# Altium integrated library Microchip PIC24F.IntLib: 529 symbols (part 14 of 32)
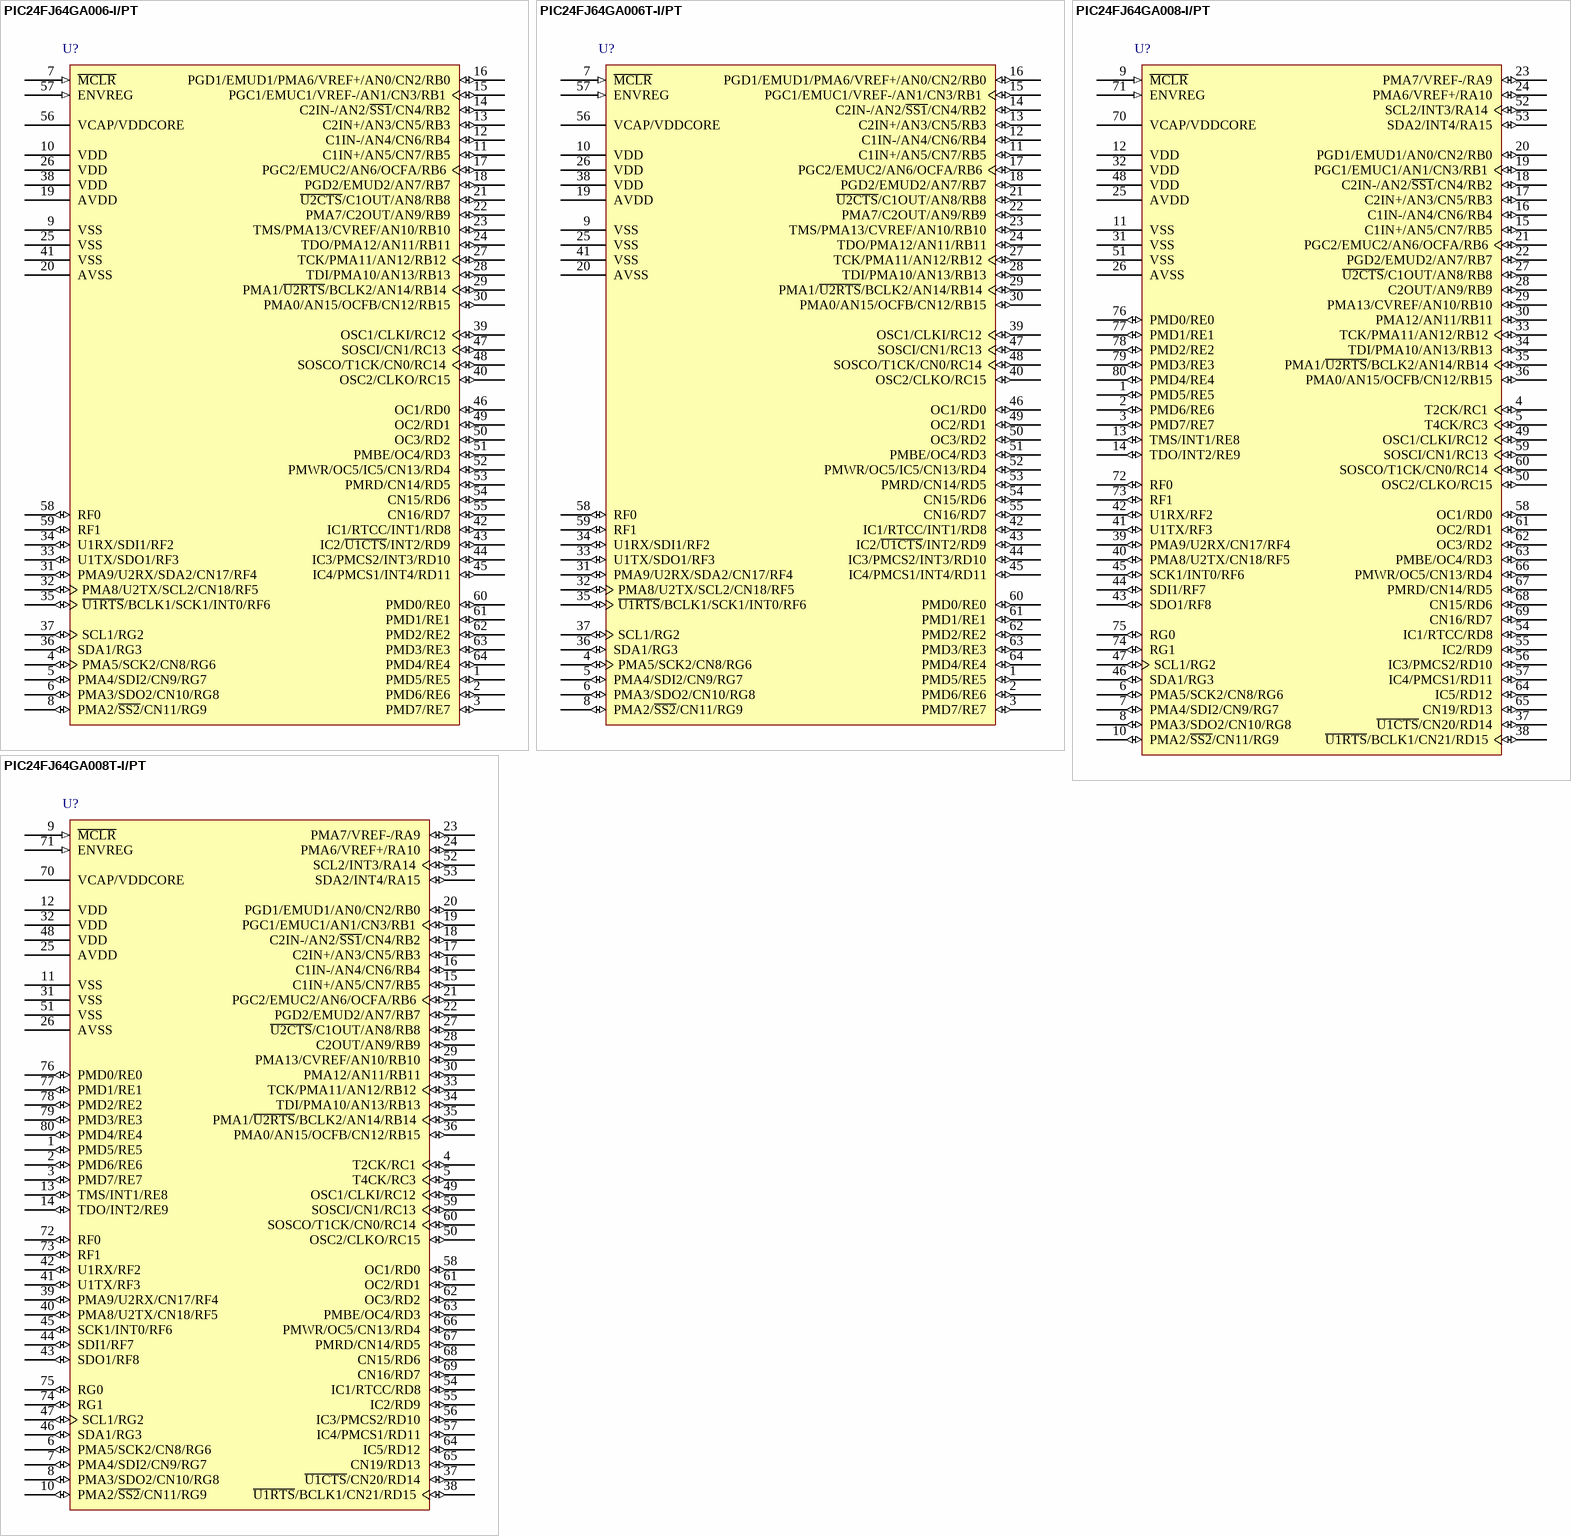
[diagram p135: symbols PIC24FJ64GA006-I/PT to PIC24FJ64GA008T-I/PT]

## PIC24FJ64GA006T-I/PT
designator U?
General Purpose 16-Bit Flash Microcontroller, 64KB Flash, 8KB SRAM, 64-Pin TQFP, Industrial Temperature, Tape and Reel; Manufacturer: Microchip; PartNumber: PIC24FJ64GA006T-I/PT; DatasheetVersion: revE, Oct-2009; PackageVersion: revBB, Aug-2009; PackageReference: TQFP-PT64; PackageDescription: 64-Lead Thin Plastic Quad Flat Pack (PT) - 10x10x1mm Body, 2.00mm [TQFP]; Supplier 1: Digi-Key; Supplier Part Number 1: PIC24FJ64GA006T-I/PT-ND; Supplier 2: Newark; Supplier Part Number 2: 56K7344; Supplier 3: Mouser; Supplier Part Number 3: 579-24FJ64GA006TIPT; Mounting Technology: Surface Mount; Code_JEDEC: MS-026; ComponentLink1Description: Manufacturer URL; ComponentLink1URL: http://www.microchip.com/; ComponentLink2Description: Datasheet; ComponentLink2URL: http://ww1.microchip.com/downloads/en/DeviceDoc/39747e.pdf; ComponentLink3Description: Package Specification; ComponentLink3URL: http://www.microchip.com/stellent/groups/techpub_sg/documents/packagingspec/en012702.pdf
footprint TQFP-PT64_N (Thin QFP, 64-Leads, Body 10x10mm, Pitch 0.5mm, IPC Medium Density)
footprint TQFP-PT64_L (Thin QFP, 64-Leads, Body 10x10mm, Pitch 0.5mm, IPC High Density)
footprint TQFP-PT64_M (Thin QFP, 64-Leads, Body 10x10mm, Pitch 0.5mm, IPC Low Density)
pins: 1 PMD5/RE5 (io), 2 PMD6/RE6 (io), 3 PMD7/RE7 (io), 4 PMA5/SCK2/CN8/RG6 (io), 5 PMA4/SDI2/CN9/RG7 (io), 6 PMA3/SDO2/CN10/RG8 (io), 7 ~{MCLR} (in), 8 PMA2/~{SS2}/CN11/RG9 (io), 9 VSS (power), 10 VDD (power), 11 C1IN+/AN5/CN7/RB5 (io), 12 C1IN-/AN4/CN6/RB4 (io), 13 C2IN+/AN3/CN5/RB3 (io), 14 C2IN-/AN2/~{SS1}/CN4/RB2 (io), 15 PGC1/EMUC1/VREF-/AN1/CN3/RB1 (io), 16 PGD1/EMUD1/PMA6/VREF+/AN0/CN2/RB0 (io), 17 PGC2/EMUC2/AN6/OCFA/RB6 (io), 18 PGD2/EMUD2/AN7/RB7 (io), 19 AVDD (power), 20 AVSS (power), 21 ~{U2CTS}/C1OUT/AN8/RB8 (io), 22 PMA7/C2OUT/AN9/RB9 (io), 23 TMS/PMA13/CVREF/AN10/RB10 (io), 24 TDO/PMA12/AN11/RB11 (io), 25 VSS (power), 26 VDD (power), 27 TCK/PMA11/AN12/RB12 (io), 28 TDI/PMA10/AN13/RB13 (io), 29 PMA1/~{U2RTS}/BCLK2/AN14/RB14 (io), 30 PMA0/AN15/OCFB/CN12/RB15 (io), 31 PMA9/U2RX/SDA2/CN17/RF4 (io), 32 PMA8/U2TX/SCL2/CN18/RF5 (io), 33 U1TX/SDO1/RF3 (io), 34 U1RX/SDI1/RF2 (io), 35 ~{U1RTS}/BCLK1/SCK1/INT0/RF6 (io), 36 SDA1/RG3 (io), 37 SCL1/RG2 (io), 38 VDD (power), 39 OSC1/CLKI/RC12 (io), 40 OSC2/CLKO/RC15 (io), 41 VSS (power), 42 IC1/RTCC/INT1/RD8 (io), 43 IC2/~{U1CTS}/INT2/RD9 (io), 44 IC3/PMCS2/INT3/RD10 (io), 45 IC4/PMCS1/INT4/RD11 (io), 46 OC1/RD0 (io), 47 SOSCI/CN1/RC13 (io), 48 SOSCO/T1CK/CN0/RC14 (io), 49 OC2/RD1 (io), 50 OC3/RD2 (io), 51 PMBE/OC4/RD3 (io), 52 PMWR/OC5/IC5/CN13/RD4 (io), 53 PMRD/CN14/RD5 (io), 54 CN15/RD6 (io), 55 CN16/RD7 (io), 56 VCAP/VDDCORE (power), 57 ENVREG (in), 58 RF0 (io), 59 RF1 (io), 60 PMD0/RE0 (io), 61 PMD1/RE1 (io), 62 PMD2/RE2 (io), 63 PMD3/RE3 (io), 64 PMD4/RE4 (io)

## PIC24FJ64GA008-I/PT
designator U?
General Purpose 16-Bit Flash Microcontroller, 64KB Flash, 8KB SRAM, 80-Pin TQFP, Industrial Temperature; Manufacturer: Microchip; PartNumber: PIC24FJ64GA008-I/PT; DatasheetVersion: revE, Oct-2009; PackageVersion: revBB, Aug-2009; PackageReference: TQFP-PT80; PackageDescription: 80-Lead Thin Plastic Quad Flat Pack (PT) - 12x12x1mm Body, 2.00mm [TQFP]; Supplier 1: Digi-Key; Supplier Part Number 1: PIC24FJ64GA008-I/PT-ND; Supplier 2: Farnell; Supplier Part Number 2: 1146525; Supplier 3: Farnell; Supplier Part Number 3: 1146525MPKG; Supplier 4: Newark; Supplier Part Number 4: 56K7345; Supplier 5: Mouser; Supplier Part Number 5: 579-24FJ64GA008IPT; Mounting Technology: Surface Mount; Code_JEDEC: MS-026; ComponentLink1Description: Manufacturer URL; ComponentLink1URL: http://www.microchip.com/; ComponentLink2Description: Datasheet; ComponentLink2URL: http://ww1.microchip.com/downloads/en/DeviceDoc/39747e.pdf; ComponentLink3Description: Package Specification; ComponentLink3URL: http://www.microchip.com/stellent/groups/techpub_sg/documents/packagingspec/en012702.pdf
footprint TQFP-PT80_N (Thin QFP, 80-Leads, Body 12x12mm, Pitch 0.5mm, IPC Medium Density)
footprint TQFP-PT80_L (Thin QFP, 80-Leads, Body 12x12mm, Pitch 0.5mm, IPC High Density)
footprint TQFP-PT80_M (Thin QFP, 80-Leads, Body 12x12mm, Pitch 0.5mm, IPC Low Density)
pins: 1 PMD5/RE5 (io), 2 PMD6/RE6 (io), 3 PMD7/RE7 (io), 4 T2CK/RC1 (io), 5 T4CK/RC3 (io), 6 PMA5/SCK2/CN8/RG6 (io), 7 PMA4/SDI2/CN9/RG7 (io), 8 PMA3/SDO2/CN10/RG8 (io), 9 ~{MCLR} (in), 10 PMA2/~{SS2}/CN11/RG9 (io), 11 VSS (power), 12 VDD (power), 13 TMS/INT1/RE8 (io), 14 TDO/INT2/RE9 (io), 15 C1IN+/AN5/CN7/RB5 (io), 16 C1IN-/AN4/CN6/RB4 (io), 17 C2IN+/AN3/CN5/RB3 (io), 18 C2IN-/AN2/~{SS1}/CN4/RB2 (io), 19 PGC1/EMUC1/AN1/CN3/RB1 (io), 20 PGD1/EMUD1/AN0/CN2/RB0 (io), 21 PGC2/EMUC2/AN6/OCFA/RB6 (io), 22 PGD2/EMUD2/AN7/RB7 (io), 23 PMA7/VREF-/RA9 (io), 24 PMA6/VREF+/RA10 (io), 25 AVDD (power), 26 AVSS (power), 27 ~{U2CTS}/C1OUT/AN8/RB8 (io), 28 C2OUT/AN9/RB9 (io), 29 PMA13/CVREF/AN10/RB10 (io), 30 PMA12/AN11/RB11 (io), 31 VSS (power), 32 VDD (power), 33 TCK/PMA11/AN12/RB12 (io), 34 TDI/PMA10/AN13/RB13 (io), 35 PMA1/~{U2RTS}/BCLK2/AN14/RB14 (io), 36 PMA0/AN15/OCFB/CN12/RB15 (io), 37 ~{U1CTS}/CN20/RD14 (io), 38 ~{U1RTS}/BCLK1/CN21/RD15 (io), 39 PMA9/U2RX/CN17/RF4 (io), 40 PMA8/U2TX/CN18/RF5 (io), 41 U1TX/RF3 (io), 42 U1RX/RF2 (io), 43 SDO1/RF8 (io), 44 SDI1/RF7 (io), 45 SCK1/INT0/RF6 (io), 46 SDA1/RG3 (io), 47 SCL1/RG2 (io), 48 VDD (power), 49 OSC1/CLKI/RC12 (io), 50 OSC2/CLKO/RC15 (io), 51 VSS (power), 52 SCL2/INT3/RA14 (io), 53 SDA2/INT4/RA15 (io), 54 IC1/RTCC/RD8 (io), 55 IC2/RD9 (io), 56 IC3/PMCS2/RD10 (io), 57 IC4/PMCS1/RD11 (io), 58 OC1/RD0 (io), 59 SOSCI/CN1/RC13 (io), 60 SOSCO/T1CK/CN0/RC14 (io), 61 OC2/RD1 (io), 62 OC3/RD2 (io), 63 PMBE/OC4/RD3 (io), 64 IC5/RD12 (io), 65 CN19/RD13 (io), 66 PMWR/OC5/CN13/RD4 (io), 67 PMRD/CN14/RD5 (io), 68 CN15/RD6 (io), 69 CN16/RD7 (io), 70 VCAP/VDDCORE (power), 71 ENVREG (in), 72 RF0 (io), 73 RF1 (io), 74 RG1 (io), 75 RG0 (io), 76 PMD0/RE0 (io), 77 PMD1/RE1 (io), 78 PMD2/RE2 (io), 79 PMD3/RE3 (io), 80 PMD4/RE4 (io)

## PIC24FJ64GA008T-I/PT
designator U?
General Purpose 16-Bit Flash Microcontroller, 64KB Flash, 8KB SRAM, 80-Pin TQFP, Industrial Temperature, Tape and Reel; Manufacturer: Microchip; PartNumber: PIC24FJ64GA008T-I/PT; DatasheetVersion: revE, Oct-2009; PackageVersion: revBB, Aug-2009; PackageReference: TQFP-PT80; PackageDescription: 80-Lead Thin Plastic Quad Flat Pack (PT) - 12x12x1mm Body, 2.00mm [TQFP]; Supplier 1: Digi-Key; Supplier Part Number 1: PIC24FJ64GA008T-I/PT-ND; Supplier 2: Mouser; Supplier Part Number 2: 579-24FJ64GA008TIPT; Mounting Technology: Surface Mount; Code_JEDEC: MS-026; ComponentLink1Description: Manufacturer URL; ComponentLink1URL: http://www.microchip.com/; ComponentLink2Description: Datasheet; ComponentLink2URL: http://ww1.microchip.com/downloads/en/DeviceDoc/39747e.pdf; ComponentLink3Description: Package Specification; ComponentLink3URL: http://www.microchip.com/stellent/groups/techpub_sg/documents/packagingspec/en012702.pdf
footprint TQFP-PT80_N (Thin QFP, 80-Leads, Body 12x12mm, Pitch 0.5mm, IPC Medium Density)
footprint TQFP-PT80_L (Thin QFP, 80-Leads, Body 12x12mm, Pitch 0.5mm, IPC High Density)
footprint TQFP-PT80_M (Thin QFP, 80-Leads, Body 12x12mm, Pitch 0.5mm, IPC Low Density)
pins: 1 PMD5/RE5 (io), 2 PMD6/RE6 (io), 3 PMD7/RE7 (io), 4 T2CK/RC1 (io), 5 T4CK/RC3 (io), 6 PMA5/SCK2/CN8/RG6 (io), 7 PMA4/SDI2/CN9/RG7 (io), 8 PMA3/SDO2/CN10/RG8 (io), 9 ~{MCLR} (in), 10 PMA2/~{SS2}/CN11/RG9 (io), 11 VSS (power), 12 VDD (power), 13 TMS/INT1/RE8 (io), 14 TDO/INT2/RE9 (io), 15 C1IN+/AN5/CN7/RB5 (io), 16 C1IN-/AN4/CN6/RB4 (io), 17 C2IN+/AN3/CN5/RB3 (io), 18 C2IN-/AN2/~{SS1}/CN4/RB2 (io), 19 PGC1/EMUC1/AN1/CN3/RB1 (io), 20 PGD1/EMUD1/AN0/CN2/RB0 (io), 21 PGC2/EMUC2/AN6/OCFA/RB6 (io), 22 PGD2/EMUD2/AN7/RB7 (io), 23 PMA7/VREF-/RA9 (io), 24 PMA6/VREF+/RA10 (io), 25 AVDD (power), 26 AVSS (power), 27 ~{U2CTS}/C1OUT/AN8/RB8 (io), 28 C2OUT/AN9/RB9 (io), 29 PMA13/CVREF/AN10/RB10 (io), 30 PMA12/AN11/RB11 (io), 31 VSS (power), 32 VDD (power), 33 TCK/PMA11/AN12/RB12 (io), 34 TDI/PMA10/AN13/RB13 (io), 35 PMA1/~{U2RTS}/BCLK2/AN14/RB14 (io), 36 PMA0/AN15/OCFB/CN12/RB15 (io), 37 ~{U1CTS}/CN20/RD14 (io), 38 ~{U1RTS}/BCLK1/CN21/RD15 (io), 39 PMA9/U2RX/CN17/RF4 (io), 40 PMA8/U2TX/CN18/RF5 (io), 41 U1TX/RF3 (io), 42 U1RX/RF2 (io), 43 SDO1/RF8 (io), 44 SDI1/RF7 (io), 45 SCK1/INT0/RF6 (io), 46 SDA1/RG3 (io), 47 SCL1/RG2 (io), 48 VDD (power), 49 OSC1/CLKI/RC12 (io), 50 OSC2/CLKO/RC15 (io), 51 VSS (power), 52 SCL2/INT3/RA14 (io), 53 SDA2/INT4/RA15 (io), 54 IC1/RTCC/RD8 (io), 55 IC2/RD9 (io), 56 IC3/PMCS2/RD10 (io), 57 IC4/PMCS1/RD11 (io), 58 OC1/RD0 (io), 59 SOSCI/CN1/RC13 (io), 60 SOSCO/T1CK/CN0/RC14 (io), 61 OC2/RD1 (io), 62 OC3/RD2 (io), 63 PMBE/OC4/RD3 (io), 64 IC5/RD12 (io), 65 CN19/RD13 (io), 66 PMWR/OC5/CN13/RD4 (io), 67 PMRD/CN14/RD5 (io), 68 CN15/RD6 (io), 69 CN16/RD7 (io), 70 VCAP/VDDCORE (power), 71 ENVREG (in), 72 RF0 (io), 73 RF1 (io), 74 RG1 (io), 75 RG0 (io), 76 PMD0/RE0 (io), 77 PMD1/RE1 (io), 78 PMD2/RE2 (io), 79 PMD3/RE3 (io), 80 PMD4/RE4 (io)

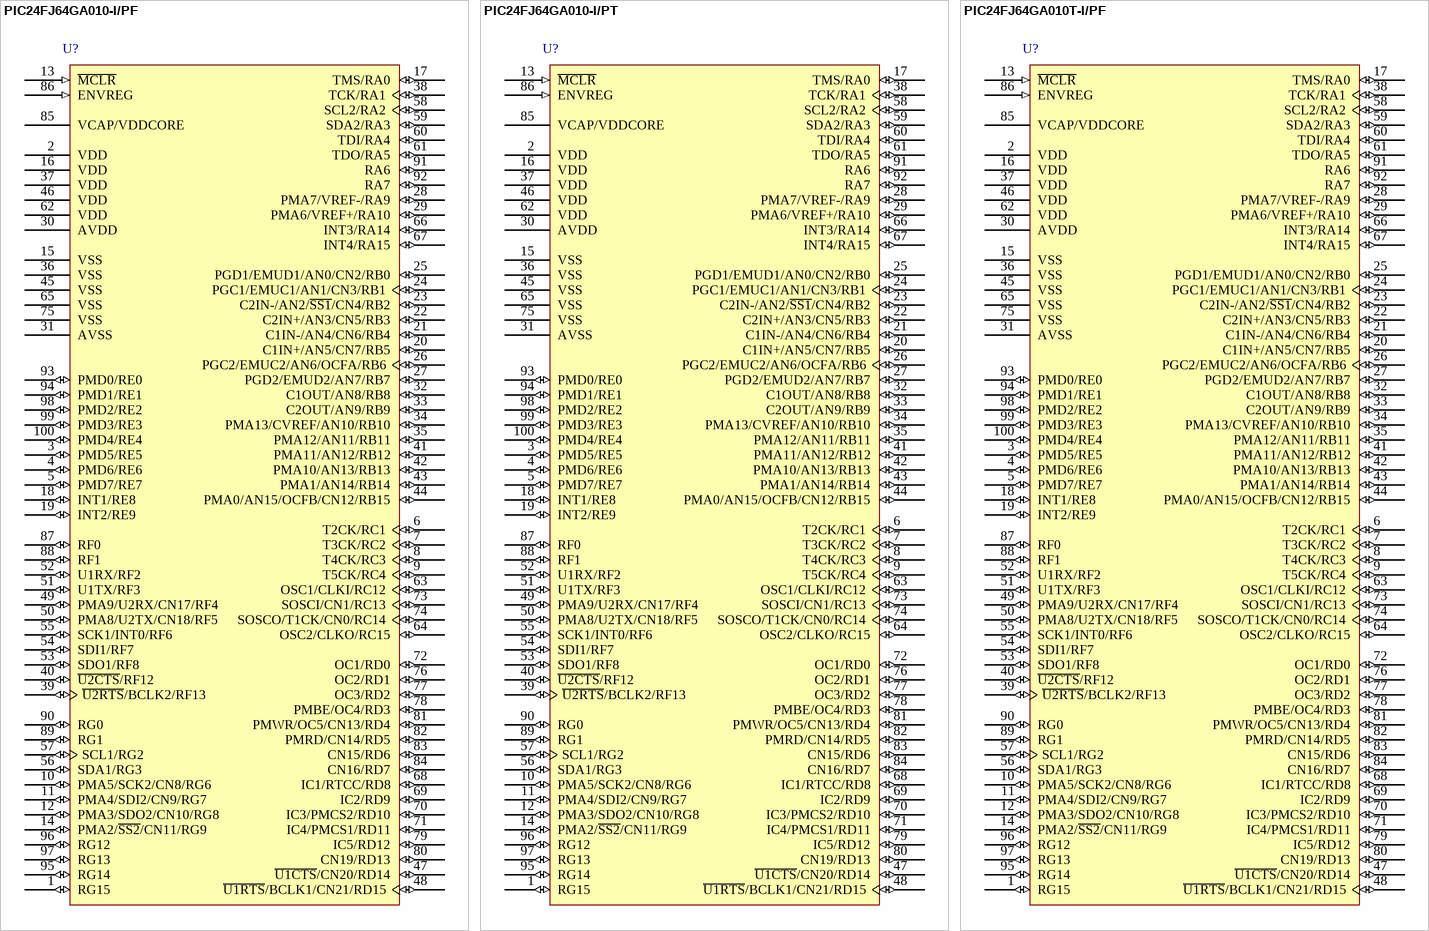
[diagram p43: symbols PIC24FJ64GA010-I/PF to PIC24FJ64GA010T-I/PF]

## PIC24FJ64GA010-I/PF
designator U?
General Purpose 16-Bit Flash Microcontroller, 64KB Flash, 8KB SRAM, 100-Pin TQFP (14x14x1 mm), Industrial Temperature; Manufacturer: Microchip; PartNumber: PIC24FJ64GA010-I/PF; DatasheetVersion: revE, Oct-2009; PackageVersion: revBB, Aug-2009; PackageReference: TQFP-PF100; PackageDescription: 100-Lead Thin Plastic Quad Flat Pack (PF) - 14x14x1mm Body, 2.00mm [TQFP]; Supplier 1: Digi-Key; Supplier Part Number 1: PIC24FJ64GA010-I/PF-ND; Supplier 2: Newark; Supplier Part Number 2: 74K8639; Supplier 3: Mouser; Supplier Part Number 3: 579-24FJ64GA010IPF; Mounting Technology: Surface Mount; ComponentLink1Description: Manufacturer URL; ComponentLink1URL: http://www.microchip.com/; ComponentLink2Description: Datasheet; ComponentLink2URL: http://ww1.microchip.com/downloads/en/DeviceDoc/39747e.pdf; ComponentLink3Description: Package Specification; ComponentLink3URL: http://www.microchip.com/stellent/groups/techpub_sg/documents/packagingspec/en012702.pdf
footprint TQFP-PF100_N (Thin QFP, 100-Leads, Body 14x14mm, Pitch 0.5mm, IPC Medium Density)
footprint TQFP-PF100_L (Thin QFP, 100-Leads, Body 14x14mm, Pitch 0.5mm, IPC High Density)
footprint TQFP-PF100_M (Thin QFP, 100-Leads, Body 14x14mm, Pitch 0.5mm, IPC Low Density)
pins: 1 RG15 (io), 2 VDD (power), 3 PMD5/RE5 (io), 4 PMD6/RE6 (io), 5 PMD7/RE7 (io), 6 T2CK/RC1 (io), 7 T3CK/RC2 (io), 8 T4CK/RC3 (io), 9 T5CK/RC4 (io), 10 PMA5/SCK2/CN8/RG6 (io), 11 PMA4/SDI2/CN9/RG7 (io), 12 PMA3/SDO2/CN10/RG8 (io), 13 ~{MCLR} (in), 14 PMA2/~{SS2}/CN11/RG9 (io), 15 VSS (power), 16 VDD (power), 17 TMS/RA0 (io), 18 INT1/RE8 (io), 19 INT2/RE9 (io), 20 C1IN+/AN5/CN7/RB5 (io), 21 C1IN-/AN4/CN6/RB4 (io), 22 C2IN+/AN3/CN5/RB3 (io), 23 C2IN-/AN2/~{SS1}/CN4/RB2 (io), 24 PGC1/EMUC1/AN1/CN3/RB1 (io), 25 PGD1/EMUD1/AN0/CN2/RB0 (io), 26 PGC2/EMUC2/AN6/OCFA/RB6 (io), 27 PGD2/EMUD2/AN7/RB7 (io), 28 PMA7/VREF-/RA9 (io), 29 PMA6/VREF+/RA10 (io), 30 AVDD (power), 31 AVSS (power), 32 C1OUT/AN8/RB8 (io), 33 C2OUT/AN9/RB9 (io), 34 PMA13/CVREF/AN10/RB10 (io), 35 PMA12/AN11/RB11 (io), 36 VSS (power), 37 VDD (power), 38 TCK/RA1 (io), 39 ~{U2RTS}/BCLK2/RF13 (io), 40 ~{U2CTS}/RF12 (io), 41 PMA11/AN12/RB12 (io), 42 PMA10/AN13/RB13 (io), 43 PMA1/AN14/RB14 (io), 44 PMA0/AN15/OCFB/CN12/RB15 (io), 45 VSS (power), 46 VDD (power), 47 ~{U1CTS}/CN20/RD14 (io), 48 ~{U1RTS}/BCLK1/CN21/RD15 (io), 49 PMA9/U2RX/CN17/RF4 (io), 50 PMA8/U2TX/CN18/RF5 (io), 51 U1TX/RF3 (io), 52 U1RX/RF2 (io), 53 SDO1/RF8 (io), 54 SDI1/RF7 (io), 55 SCK1/INT0/RF6 (io), 56 SDA1/RG3 (io), 57 SCL1/RG2 (io), 58 SCL2/RA2 (io), 59 SDA2/RA3 (io), 60 TDI/RA4 (io), 61 TDO/RA5 (io), 62 VDD (power), 63 OSC1/CLKI/RC12 (io), 64 OSC2/CLKO/RC15 (io), 65 VSS (power), 66 INT3/RA14 (io), 67 INT4/RA15 (io), 68 IC1/RTCC/RD8 (io), 69 IC2/RD9 (io), 70 IC3/PMCS2/RD10 (io), 71 IC4/PMCS1/RD11 (io), 72 OC1/RD0 (io), 73 SOSCI/CN1/RC13 (io), 74 SOSCO/T1CK/CN0/RC14 (io), 75 VSS (power), 76 OC2/RD1 (io), 77 OC3/RD2 (io), 78 PMBE/OC4/RD3 (io), 79 IC5/RD12 (io), 80 CN19/RD13 (io), 81 PMWR/OC5/CN13/RD4 (io), 82 PMRD/CN14/RD5 (io), 83 CN15/RD6 (io), 84 CN16/RD7 (io), 85 VCAP/VDDCORE (power), 86 ENVREG (in), 87 RF0 (io), 88 RF1 (io), 89 RG1 (io), 90 RG0 (io), 91 RA6 (io), 92 RA7 (io), 93 PMD0/RE0 (io), 94 PMD1/RE1 (io), 95 RG14 (io), 96 RG12 (io), 97 RG13 (io), 98 PMD2/RE2 (io), 99 PMD3/RE3 (io), 100 PMD4/RE4 (io)

## PIC24FJ64GA010-I/PT
designator U?
General Purpose 16-Bit Flash Microcontroller, 64KB Flash, 8KB SRAM, 100-Pin TQFP (12x12x1 mm), Industrial Temperature; Manufacturer: Microchip; PartNumber: PIC24FJ64GA010-I/PT; DatasheetVersion: revE, Oct-2009; PackageVersion: revBB, Aug-2009; PackageReference: TQFP-PT100; PackageDescription: 100-Lead Plastic Thin Quad Flatpack (PT) - 12x12x1mm Body, 2.00mm [TQFP]; Supplier 1: Digi-Key; Supplier Part Number 1: PIC24FJ64GA010-I/PT-ND; Supplier 2: Mouser; Supplier Part Number 2: 579-PIC24FJ64GA010; Mounting Technology: Surface Mount; ComponentLink1Description: Manufacturer URL; ComponentLink1URL: http://www.microchip.com/; ComponentLink2Description: Datasheet; ComponentLink2URL: http://ww1.microchip.com/downloads/en/DeviceDoc/39747e.pdf; ComponentLink3Description: Package Specification; ComponentLink3URL: http://www.microchip.com/stellent/groups/techpub_sg/documents/packagingspec/en012702.pdf
footprint TQFP-PT100_N (Thin QFP, 100-Leads, Body 12x12mm, Pitch 0.4mm, IPC Medium Density)
footprint TQFP-PT100_L (Thin QFP, 100-Leads, Body 12x12mm, Pitch 0.4mm, IPC High Density)
footprint TQFP-PT100_M (Thin QFP, 100-Leads, Body 12x12mm, Pitch 0.4mm, IPC Low Density)
pins: 1 RG15 (io), 2 VDD (power), 3 PMD5/RE5 (io), 4 PMD6/RE6 (io), 5 PMD7/RE7 (io), 6 T2CK/RC1 (io), 7 T3CK/RC2 (io), 8 T4CK/RC3 (io), 9 T5CK/RC4 (io), 10 PMA5/SCK2/CN8/RG6 (io), 11 PMA4/SDI2/CN9/RG7 (io), 12 PMA3/SDO2/CN10/RG8 (io), 13 ~{MCLR} (in), 14 PMA2/~{SS2}/CN11/RG9 (io), 15 VSS (power), 16 VDD (power), 17 TMS/RA0 (io), 18 INT1/RE8 (io), 19 INT2/RE9 (io), 20 C1IN+/AN5/CN7/RB5 (io), 21 C1IN-/AN4/CN6/RB4 (io), 22 C2IN+/AN3/CN5/RB3 (io), 23 C2IN-/AN2/~{SS1}/CN4/RB2 (io), 24 PGC1/EMUC1/AN1/CN3/RB1 (io), 25 PGD1/EMUD1/AN0/CN2/RB0 (io), 26 PGC2/EMUC2/AN6/OCFA/RB6 (io), 27 PGD2/EMUD2/AN7/RB7 (io), 28 PMA7/VREF-/RA9 (io), 29 PMA6/VREF+/RA10 (io), 30 AVDD (power), 31 AVSS (power), 32 C1OUT/AN8/RB8 (io), 33 C2OUT/AN9/RB9 (io), 34 PMA13/CVREF/AN10/RB10 (io), 35 PMA12/AN11/RB11 (io), 36 VSS (power), 37 VDD (power), 38 TCK/RA1 (io), 39 ~{U2RTS}/BCLK2/RF13 (io), 40 ~{U2CTS}/RF12 (io), 41 PMA11/AN12/RB12 (io), 42 PMA10/AN13/RB13 (io), 43 PMA1/AN14/RB14 (io), 44 PMA0/AN15/OCFB/CN12/RB15 (io), 45 VSS (power), 46 VDD (power), 47 ~{U1CTS}/CN20/RD14 (io), 48 ~{U1RTS}/BCLK1/CN21/RD15 (io), 49 PMA9/U2RX/CN17/RF4 (io), 50 PMA8/U2TX/CN18/RF5 (io), 51 U1TX/RF3 (io), 52 U1RX/RF2 (io), 53 SDO1/RF8 (io), 54 SDI1/RF7 (io), 55 SCK1/INT0/RF6 (io), 56 SDA1/RG3 (io), 57 SCL1/RG2 (io), 58 SCL2/RA2 (io), 59 SDA2/RA3 (io), 60 TDI/RA4 (io), 61 TDO/RA5 (io), 62 VDD (power), 63 OSC1/CLKI/RC12 (io), 64 OSC2/CLKO/RC15 (io), 65 VSS (power), 66 INT3/RA14 (io), 67 INT4/RA15 (io), 68 IC1/RTCC/RD8 (io), 69 IC2/RD9 (io), 70 IC3/PMCS2/RD10 (io), 71 IC4/PMCS1/RD11 (io), 72 OC1/RD0 (io), 73 SOSCI/CN1/RC13 (io), 74 SOSCO/T1CK/CN0/RC14 (io), 75 VSS (power), 76 OC2/RD1 (io), 77 OC3/RD2 (io), 78 PMBE/OC4/RD3 (io), 79 IC5/RD12 (io), 80 CN19/RD13 (io), 81 PMWR/OC5/CN13/RD4 (io), 82 PMRD/CN14/RD5 (io), 83 CN15/RD6 (io), 84 CN16/RD7 (io), 85 VCAP/VDDCORE (power), 86 ENVREG (in), 87 RF0 (io), 88 RF1 (io), 89 RG1 (io), 90 RG0 (io), 91 RA6 (io), 92 RA7 (io), 93 PMD0/RE0 (io), 94 PMD1/RE1 (io), 95 RG14 (io), 96 RG12 (io), 97 RG13 (io), 98 PMD2/RE2 (io), 99 PMD3/RE3 (io), 100 PMD4/RE4 (io)

## PIC24FJ64GA010T-I/PF
designator U?
General Purpose 16-Bit Flash Microcontroller, 64KB Flash, 8KB SRAM, 100-Pin TQFP (14x14x1 mm), Industrial Temperature, Tape and Reel; Manufacturer: Microchip; PartNumber: PIC24FJ64GA010T-I/PF; DatasheetVersion: revE, Oct-2009; PackageVersion: revBB, Aug-2009; PackageReference: TQFP-PF100; PackageDescription: 100-Lead Thin Plastic Quad Flat Pack (PF) - 14x14x1mm Body, 2.00mm [TQFP]; Mounting Technology: Surface Mount; ComponentLink1Description: Manufacturer URL; ComponentLink1URL: http://www.microchip.com/; ComponentLink2Description: Datasheet; ComponentLink2URL: http://ww1.microchip.com/downloads/en/DeviceDoc/39747e.pdf; ComponentLink3Description: Package Specification; ComponentLink3URL: http://www.microchip.com/stellent/groups/techpub_sg/documents/packagingspec/en012702.pdf
footprint TQFP-PF100_N (Thin QFP, 100-Leads, Body 14x14mm, Pitch 0.5mm, IPC Medium Density)
footprint TQFP-PF100_L (Thin QFP, 100-Leads, Body 14x14mm, Pitch 0.5mm, IPC High Density)
footprint TQFP-PF100_M (Thin QFP, 100-Leads, Body 14x14mm, Pitch 0.5mm, IPC Low Density)
pins: 1 RG15 (io), 2 VDD (power), 3 PMD5/RE5 (io), 4 PMD6/RE6 (io), 5 PMD7/RE7 (io), 6 T2CK/RC1 (io), 7 T3CK/RC2 (io), 8 T4CK/RC3 (io), 9 T5CK/RC4 (io), 10 PMA5/SCK2/CN8/RG6 (io), 11 PMA4/SDI2/CN9/RG7 (io), 12 PMA3/SDO2/CN10/RG8 (io), 13 ~{MCLR} (in), 14 PMA2/~{SS2}/CN11/RG9 (io), 15 VSS (power), 16 VDD (power), 17 TMS/RA0 (io), 18 INT1/RE8 (io), 19 INT2/RE9 (io), 20 C1IN+/AN5/CN7/RB5 (io), 21 C1IN-/AN4/CN6/RB4 (io), 22 C2IN+/AN3/CN5/RB3 (io), 23 C2IN-/AN2/~{SS1}/CN4/RB2 (io), 24 PGC1/EMUC1/AN1/CN3/RB1 (io), 25 PGD1/EMUD1/AN0/CN2/RB0 (io), 26 PGC2/EMUC2/AN6/OCFA/RB6 (io), 27 PGD2/EMUD2/AN7/RB7 (io), 28 PMA7/VREF-/RA9 (io), 29 PMA6/VREF+/RA10 (io), 30 AVDD (power), 31 AVSS (power), 32 C1OUT/AN8/RB8 (io), 33 C2OUT/AN9/RB9 (io), 34 PMA13/CVREF/AN10/RB10 (io), 35 PMA12/AN11/RB11 (io), 36 VSS (power), 37 VDD (power), 38 TCK/RA1 (io), 39 ~{U2RTS}/BCLK2/RF13 (io), 40 ~{U2CTS}/RF12 (io), 41 PMA11/AN12/RB12 (io), 42 PMA10/AN13/RB13 (io), 43 PMA1/AN14/RB14 (io), 44 PMA0/AN15/OCFB/CN12/RB15 (io), 45 VSS (power), 46 VDD (power), 47 ~{U1CTS}/CN20/RD14 (io), 48 ~{U1RTS}/BCLK1/CN21/RD15 (io), 49 PMA9/U2RX/CN17/RF4 (io), 50 PMA8/U2TX/CN18/RF5 (io), 51 U1TX/RF3 (io), 52 U1RX/RF2 (io), 53 SDO1/RF8 (io), 54 SDI1/RF7 (io), 55 SCK1/INT0/RF6 (io), 56 SDA1/RG3 (io), 57 SCL1/RG2 (io), 58 SCL2/RA2 (io), 59 SDA2/RA3 (io), 60 TDI/RA4 (io), 61 TDO/RA5 (io), 62 VDD (power), 63 OSC1/CLKI/RC12 (io), 64 OSC2/CLKO/RC15 (io), 65 VSS (power), 66 INT3/RA14 (io), 67 INT4/RA15 (io), 68 IC1/RTCC/RD8 (io), 69 IC2/RD9 (io), 70 IC3/PMCS2/RD10 (io), 71 IC4/PMCS1/RD11 (io), 72 OC1/RD0 (io), 73 SOSCI/CN1/RC13 (io), 74 SOSCO/T1CK/CN0/RC14 (io), 75 VSS (power), 76 OC2/RD1 (io), 77 OC3/RD2 (io), 78 PMBE/OC4/RD3 (io), 79 IC5/RD12 (io), 80 CN19/RD13 (io), 81 PMWR/OC5/CN13/RD4 (io), 82 PMRD/CN14/RD5 (io), 83 CN15/RD6 (io), 84 CN16/RD7 (io), 85 VCAP/VDDCORE (power), 86 ENVREG (in), 87 RF0 (io), 88 RF1 (io), 89 RG1 (io), 90 RG0 (io), 91 RA6 (io), 92 RA7 (io), 93 PMD0/RE0 (io), 94 PMD1/RE1 (io), 95 RG14 (io), 96 RG12 (io), 97 RG13 (io), 98 PMD2/RE2 (io), 99 PMD3/RE3 (io), 100 PMD4/RE4 (io)

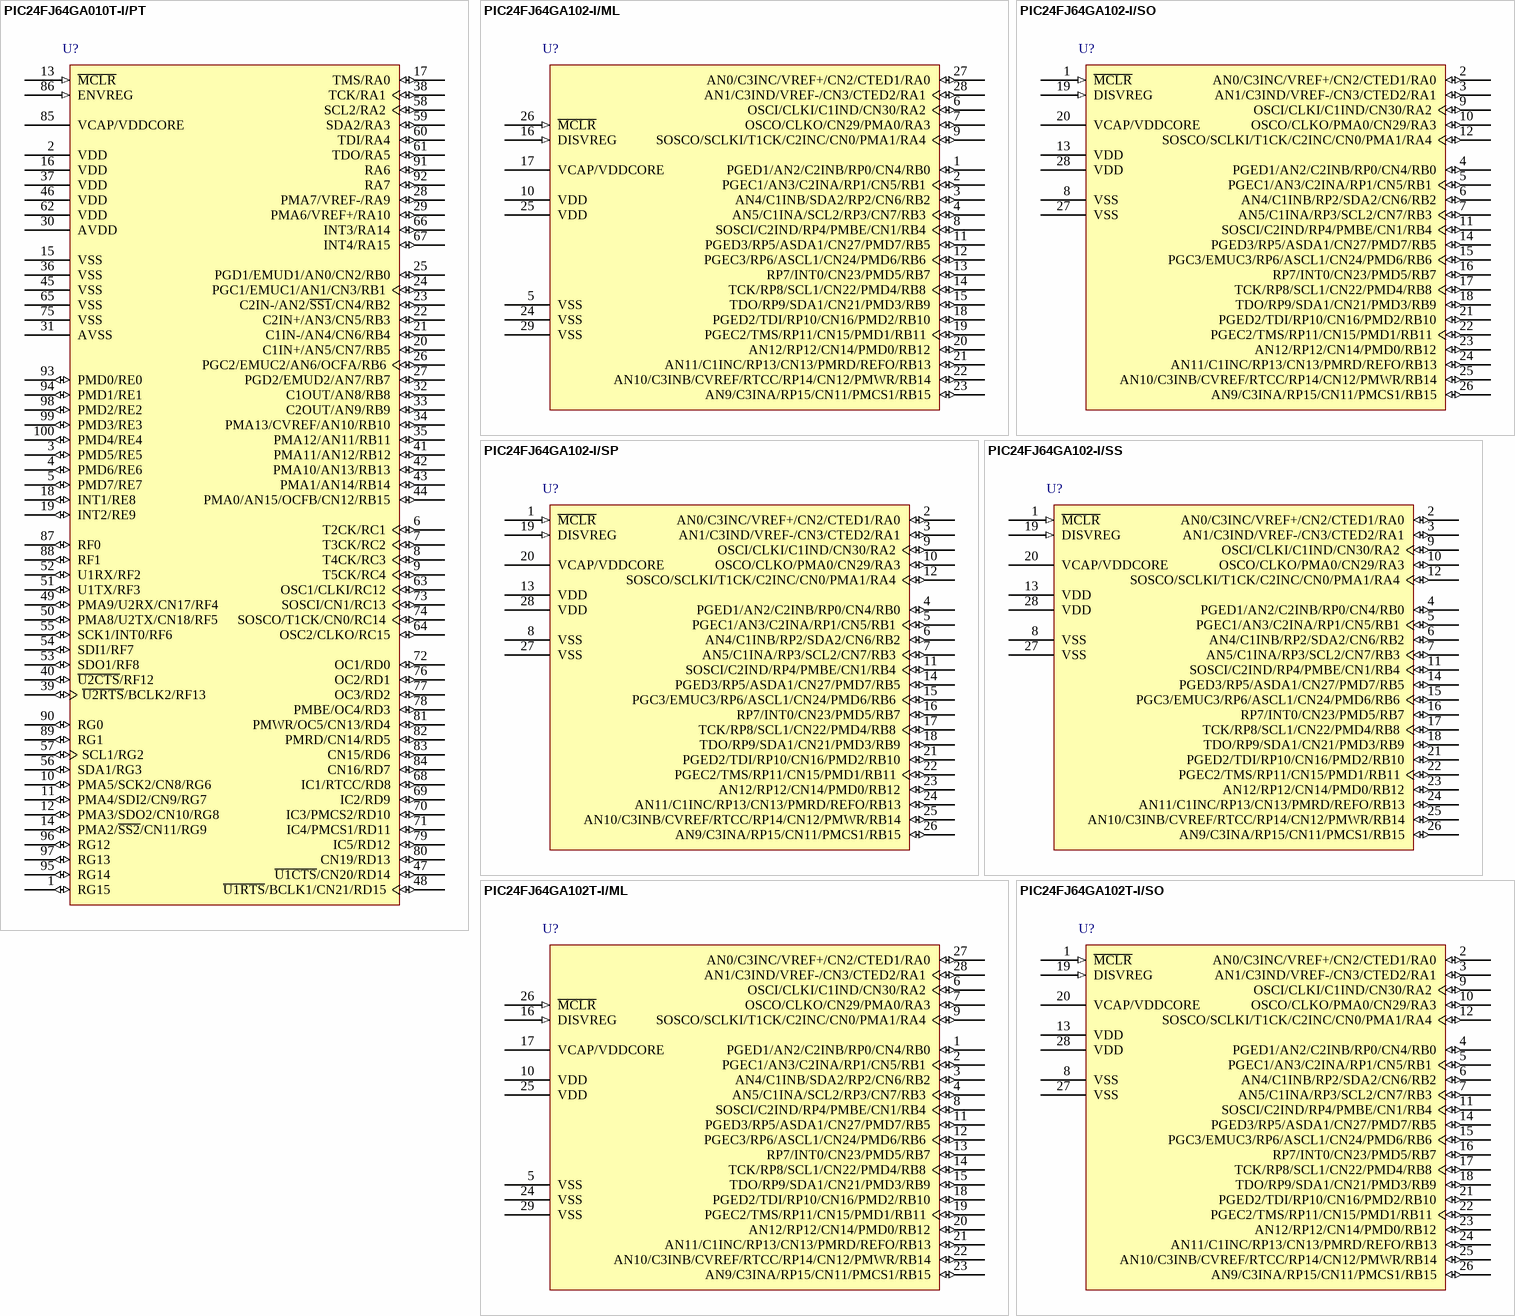
[diagram p44: symbols PIC24FJ64GA010T-I/PT to PIC24FJ64GA102T-I/SO]

## PIC24FJ64GA010T-I/PT
designator U?
General Purpose 16-Bit Flash Microcontroller, 64KB Flash, 8KB SRAM, 100-Pin TQFP (12x12x1 mm), Industrial Temperature, Tape and Reel; Manufacturer: Microchip; PartNumber: PIC24FJ64GA010T-I/PT; DatasheetVersion: revE, Oct-2009; PackageVersion: revBB, Aug-2009; PackageReference: TQFP-PT100; PackageDescription: 100-Lead Plastic Thin Quad Flatpack (PT) - 12x12x1mm Body, 2.00mm [TQFP]; Supplier 1: Digi-Key; Supplier Part Number 1: PIC24FJ64GA010T-I/PT-ND; Supplier 2: Mouser; Supplier Part Number 2: 579-24FJ64GA010TIPT; Mounting Technology: Surface Mount; ComponentLink1Description: Manufacturer URL; ComponentLink1URL: http://www.microchip.com/; ComponentLink2Description: Datasheet; ComponentLink2URL: http://ww1.microchip.com/downloads/en/DeviceDoc/39747e.pdf; ComponentLink3Description: Package Specification; ComponentLink3URL: http://www.microchip.com/stellent/groups/techpub_sg/documents/packagingspec/en012702.pdf
footprint TQFP-PT100_N (Thin QFP, 100-Leads, Body 12x12mm, Pitch 0.4mm, IPC Medium Density)
footprint TQFP-PT100_L (Thin QFP, 100-Leads, Body 12x12mm, Pitch 0.4mm, IPC High Density)
footprint TQFP-PT100_M (Thin QFP, 100-Leads, Body 12x12mm, Pitch 0.4mm, IPC Low Density)
pins: 1 RG15 (io), 2 VDD (power), 3 PMD5/RE5 (io), 4 PMD6/RE6 (io), 5 PMD7/RE7 (io), 6 T2CK/RC1 (io), 7 T3CK/RC2 (io), 8 T4CK/RC3 (io), 9 T5CK/RC4 (io), 10 PMA5/SCK2/CN8/RG6 (io), 11 PMA4/SDI2/CN9/RG7 (io), 12 PMA3/SDO2/CN10/RG8 (io), 13 ~{MCLR} (in), 14 PMA2/~{SS2}/CN11/RG9 (io), 15 VSS (power), 16 VDD (power), 17 TMS/RA0 (io), 18 INT1/RE8 (io), 19 INT2/RE9 (io), 20 C1IN+/AN5/CN7/RB5 (io), 21 C1IN-/AN4/CN6/RB4 (io), 22 C2IN+/AN3/CN5/RB3 (io), 23 C2IN-/AN2/~{SS1}/CN4/RB2 (io), 24 PGC1/EMUC1/AN1/CN3/RB1 (io), 25 PGD1/EMUD1/AN0/CN2/RB0 (io), 26 PGC2/EMUC2/AN6/OCFA/RB6 (io), 27 PGD2/EMUD2/AN7/RB7 (io), 28 PMA7/VREF-/RA9 (io), 29 PMA6/VREF+/RA10 (io), 30 AVDD (power), 31 AVSS (power), 32 C1OUT/AN8/RB8 (io), 33 C2OUT/AN9/RB9 (io), 34 PMA13/CVREF/AN10/RB10 (io), 35 PMA12/AN11/RB11 (io), 36 VSS (power), 37 VDD (power), 38 TCK/RA1 (io), 39 ~{U2RTS}/BCLK2/RF13 (io), 40 ~{U2CTS}/RF12 (io), 41 PMA11/AN12/RB12 (io), 42 PMA10/AN13/RB13 (io), 43 PMA1/AN14/RB14 (io), 44 PMA0/AN15/OCFB/CN12/RB15 (io), 45 VSS (power), 46 VDD (power), 47 ~{U1CTS}/CN20/RD14 (io), 48 ~{U1RTS}/BCLK1/CN21/RD15 (io), 49 PMA9/U2RX/CN17/RF4 (io), 50 PMA8/U2TX/CN18/RF5 (io), 51 U1TX/RF3 (io), 52 U1RX/RF2 (io), 53 SDO1/RF8 (io), 54 SDI1/RF7 (io), 55 SCK1/INT0/RF6 (io), 56 SDA1/RG3 (io), 57 SCL1/RG2 (io), 58 SCL2/RA2 (io), 59 SDA2/RA3 (io), 60 TDI/RA4 (io), 61 TDO/RA5 (io), 62 VDD (power), 63 OSC1/CLKI/RC12 (io), 64 OSC2/CLKO/RC15 (io), 65 VSS (power), 66 INT3/RA14 (io), 67 INT4/RA15 (io), 68 IC1/RTCC/RD8 (io), 69 IC2/RD9 (io), 70 IC3/PMCS2/RD10 (io), 71 IC4/PMCS1/RD11 (io), 72 OC1/RD0 (io), 73 SOSCI/CN1/RC13 (io), 74 SOSCO/T1CK/CN0/RC14 (io), 75 VSS (power), 76 OC2/RD1 (io), 77 OC3/RD2 (io), 78 PMBE/OC4/RD3 (io), 79 IC5/RD12 (io), 80 CN19/RD13 (io), 81 PMWR/OC5/CN13/RD4 (io), 82 PMRD/CN14/RD5 (io), 83 CN15/RD6 (io), 84 CN16/RD7 (io), 85 VCAP/VDDCORE (power), 86 ENVREG (in), 87 RF0 (io), 88 RF1 (io), 89 RG1 (io), 90 RG0 (io), 91 RA6 (io), 92 RA7 (io), 93 PMD0/RE0 (io), 94 PMD1/RE1 (io), 95 RG14 (io), 96 RG12 (io), 97 RG13 (io), 98 PMD2/RE2 (io), 99 PMD3/RE3 (io), 100 PMD4/RE4 (io)

## PIC24FJ64GA102-I/ML
designator U?
General purpose 16-bit Flash Microcontroller with nanoWatt XLP, 64KB Flash, 8KB SRAM, 28-Pin QFN, Industrial Temperature; Manufacturer: Microchip; PartNumber: PIC24FJ64GA102-I/ML; DatasheetVersion: revC, Aug-2010; PackageVersion: revBB, Aug-2009; PackageReference: QFN-ML28; PackageDescription: 28-Lead Plastic Quad Flat, No Lead Package (ML) - 6x6 mm Body [QFN] with 0.55 mm Contact Length; Supplier 1: Digi-Key; Supplier Part Number 1: PIC24FJ64GA102-I/ML-ND; Supplier 2: Farnell; Supplier Part Number 2: 1778477; Supplier 3: Newark; Supplier Part Number 3: 07P9732; Supplier 4: Mouser; Supplier Part Number 4: 579-P24FJ64GA102IML; Mounting Technology: Surface Mount; Code_JEDEC: MO-220; ComponentLink1Description: Manufacturer URL; ComponentLink1URL: http://www.microchip.com/; ComponentLink2Description: Datasheet; ComponentLink2URL: http://ww1.microchip.com/downloads/en/DeviceDoc/39951C.pdf; ComponentLink3Description: Package Specification; ComponentLink3URL: http://www.microchip.com/stellent/groups/techpub_sg/documents/packagingspec/en012702.pdf
footprint QFN-ML28_N (QFN, 28-Leads, Body 6x6mm, Pitch 0.65mm, Thermal Pad 4.2x4.2mm, IPC Medium Density)
footprint QFN-ML28_L (QFN, 28-Leads, Body 6x6mm, Pitch 0.65mm, Thermal Pad 4.2x4.2mm, IPC High Density)
footprint QFN-ML28_M (QFN, 28-Leads, Body 6x6mm, Pitch 0.65mm, Thermal Pad 4.2x4.2mm, IPC Low Density)
pins: 1 PGED1/AN2/C2INB/RP0/CN4/RB0 (io), 2 PGEC1/AN3/C2INA/RP1/CN5/RB1 (io), 3 AN4/C1INB/SDA2/RP2/CN6/RB2 (io), 4 AN5/C1INA/SCL2/RP3/CN7/RB3 (io), 5 VSS (power), 6 OSCI/CLKI/C1IND/CN30/RA2 (io), 7 OSCO/CLKO/CN29/PMA0/RA3 (io), 8 SOSCI/C2IND/RP4/PMBE/CN1/RB4 (io), 9 SOSCO/SCLKI/T1CK/C2INC/CN0/PMA1/RA4 (io), 10 VDD (power), 11 PGED3/RP5/ASDA1/CN27/PMD7/RB5 (io), 12 PGEC3/RP6/ASCL1/CN24/PMD6/RB6 (io), 13 RP7/INT0/CN23/PMD5/RB7 (io), 14 TCK/RP8/SCL1/CN22/PMD4/RB8 (io), 15 TDO/RP9/SDA1/CN21/PMD3/RB9 (io), 16 DISVREG (in), 17 VCAP/VDDCORE (power), 18 PGED2/TDI/RP10/CN16/PMD2/RB10 (io), 19 PGEC2/TMS/RP11/CN15/PMD1/RB11 (io), 20 AN12/RP12/CN14/PMD0/RB12 (io), 21 AN11/C1INC/RP13/CN13/PMRD/REFO/RB13 (io), 22 AN10/C3INB/CVREF/RTCC/RP14/CN12/PMWR/RB14 (io), 23 AN9/C3INA/RP15/CN11/PMCS1/RB15 (io), 24 VSS (power), 25 VDD (power), 26 ~{MCLR} (in), 27 AN0/C3INC/VREF+/CN2/CTED1/RA0 (io), 28 AN1/C3IND/VREF-/CN3/CTED2/RA1 (io), 29 VSS (power)

## PIC24FJ64GA102-I/SO
designator U?
General purpose 16-bit Flash Microcontroller with nanoWatt XLP, 64KB Flash, 8KB SRAM, 28-Pin SOIC, Industrial Temperature; Manufacturer: Microchip; PartNumber: PIC24FJ64GA102-I/SO; DatasheetVersion: revC, Aug-2010; PackageVersion: revBB, Aug-2009; PackageReference: SOIC-SO28; PackageDescription: 28-Lead Plastic Small Outline (SO) - Wide 7.50mm Body [SOIC]; Supplier 1: Digi-Key; Supplier Part Number 1: PIC24FJ64GA102-I/SO-ND; Supplier 2: Farnell; Supplier Part Number 2: 1778478; Supplier 3: Newark; Supplier Part Number 3: 07P9733; Supplier 4: Mouser; Supplier Part Number 4: 579-P24FJ64GA102ISO; Mounting Technology: Surface Mount; Code_JEDEC: MS-013; ComponentLink1Description: Manufacturer URL; ComponentLink1URL: http://www.microchip.com/; ComponentLink2Description: Datasheet; ComponentLink2URL: http://ww1.microchip.com/downloads/en/DeviceDoc/39951C.pdf; ComponentLink3Description: Package Specification; ComponentLink3URL: http://www.microchip.com/stellent/groups/techpub_sg/documents/packagingspec/en012702.pdf
footprint SOIC-SO28_N (SOIC, 28-Leads, Body 17.9x7.5mm, Pitch 1.27mm, IPC Medium Density)
footprint SOIC-SO28_L (SOIC, 28-Leads, Body 17.9x7.5mm, Pitch 1.27mm, IPC High Density)
footprint SOIC-SO28_M (SOIC, 28-Leads, Body 17.9x7.5mm, Pitch 1.27mm, IPC Low Density)
pins: 1 ~{MCLR} (in), 2 AN0/C3INC/VREF+/CN2/CTED1/RA0 (io), 3 AN1/C3IND/VREF-/CN3/CTED2/RA1 (io), 4 PGED1/AN2/C2INB/RP0/CN4/RB0 (io), 5 PGEC1/AN3/C2INA/RP1/CN5/RB1 (io), 6 AN4/C1INB/RP2/SDA2/CN6/RB2 (io), 7 AN5/C1INA/RP3/SCL2/CN7/RB3 (io), 8 VSS (power), 9 OSCI/CLKI/C1IND/CN30/RA2 (io), 10 OSCO/CLKO/PMA0/CN29/RA3 (io), 11 SOSCI/C2IND/RP4/PMBE/CN1/RB4 (io), 12 SOSCO/SCLKI/T1CK/C2INC/CN0/PMA1/RA4 (io), 13 VDD (power), 14 PGED3/RP5/ASDA1/CN27/PMD7/RB5 (io), 15 PGC3/EMUC3/RP6/ASCL1/CN24/PMD6/RB6 (io), 16 RP7/INT0/CN23/PMD5/RB7 (io), 17 TCK/RP8/SCL1/CN22/PMD4/RB8 (io), 18 TDO/RP9/SDA1/CN21/PMD3/RB9 (io), 19 DISVREG (in), 20 VCAP/VDDCORE (power), 21 PGED2/TDI/RP10/CN16/PMD2/RB10 (io), 22 PGEC2/TMS/RP11/CN15/PMD1/RB11 (io), 23 AN12/RP12/CN14/PMD0/RB12 (io), 24 AN11/C1INC/RP13/CN13/PMRD/REFO/RB13 (io), 25 AN10/C3INB/CVREF/RTCC/RP14/CN12/PMWR/RB14 (io), 26 AN9/C3INA/RP15/CN11/PMCS1/RB15 (io), 27 VSS (power), 28 VDD (power)

## PIC24FJ64GA102-I/SP
designator U?
General purpose 16-bit Flash Microcontroller with nanoWatt XLP, 64KB Flash, 8KB SRAM, 28-Pin SPDIP, Industrial Temperature; Manufacturer: Microchip; PartNumber: PIC24FJ64GA102-I/SP; DatasheetVersion: revC, Aug-2010; PackageVersion: revBB, Aug-2009; PackageReference: SPDIP300-SP28; PackageDescription: 28-Lead Skinny Plastic Dual In-Line (SP) - 300 mil Body [SPDIP]; Supplier 1: Digi-Key; Supplier Part Number 1: PIC24FJ64GA102-I/SP-ND; Supplier 2: Farnell; Supplier Part Number 2: 1778479; Supplier 3: Newark; Supplier Part Number 3: 07P9734; Supplier 4: Mouser; Supplier Part Number 4: 579-P24FJ64GA102ISP; Mounting Technology: Through Hole; ComponentLink1Description: Manufacturer URL; ComponentLink1URL: http://www.microchip.com/; ComponentLink2Description: Datasheet; ComponentLink2URL: http://ww1.microchip.com/downloads/en/DeviceDoc/39951C.pdf; ComponentLink3Description: Package Specification; ComponentLink3URL: http://www.microchip.com/stellent/groups/techpub_sg/documents/packagingspec/en012702.pdf
footprint SPDIP300-SP28 (DIP, 28-Leads, Row Spacing 7.62mm, Pitch 2.54mm, Body 34.9x6.8mm)
pins: 1 ~{MCLR} (in), 2 AN0/C3INC/VREF+/CN2/CTED1/RA0 (io), 3 AN1/C3IND/VREF-/CN3/CTED2/RA1 (io), 4 PGED1/AN2/C2INB/RP0/CN4/RB0 (io), 5 PGEC1/AN3/C2INA/RP1/CN5/RB1 (io), 6 AN4/C1INB/RP2/SDA2/CN6/RB2 (io), 7 AN5/C1INA/RP3/SCL2/CN7/RB3 (io), 8 VSS (power), 9 OSCI/CLKI/C1IND/CN30/RA2 (io), 10 OSCO/CLKO/PMA0/CN29/RA3 (io), 11 SOSCI/C2IND/RP4/PMBE/CN1/RB4 (io), 12 SOSCO/SCLKI/T1CK/C2INC/CN0/PMA1/RA4 (io), 13 VDD (power), 14 PGED3/RP5/ASDA1/CN27/PMD7/RB5 (io), 15 PGC3/EMUC3/RP6/ASCL1/CN24/PMD6/RB6 (io), 16 RP7/INT0/CN23/PMD5/RB7 (io), 17 TCK/RP8/SCL1/CN22/PMD4/RB8 (io), 18 TDO/RP9/SDA1/CN21/PMD3/RB9 (io), 19 DISVREG (in), 20 VCAP/VDDCORE (power), 21 PGED2/TDI/RP10/CN16/PMD2/RB10 (io), 22 PGEC2/TMS/RP11/CN15/PMD1/RB11 (io), 23 AN12/RP12/CN14/PMD0/RB12 (io), 24 AN11/C1INC/RP13/CN13/PMRD/REFO/RB13 (io), 25 AN10/C3INB/CVREF/RTCC/RP14/CN12/PMWR/RB14 (io), 26 AN9/C3INA/RP15/CN11/PMCS1/RB15 (io), 27 VSS (power), 28 VDD (power)

## PIC24FJ64GA102-I/SS
designator U?
General purpose 16-bit Flash Microcontroller with nanoWatt XLP, 64KB Flash, 8KB SRAM, 28-Pin SSOP, Industrial Temperature; Manufacturer: Microchip; PartNumber: PIC24FJ64GA102-I/SS; DatasheetVersion: revC, Aug-2010; PackageVersion: revBB, Aug-2009; PackageReference: SSOP-SS28; PackageDescription: 28-Lead Plastic Shrink Small Outline (SS) - 5.3mm Body [SSOP]; Supplier 1: Digi-Key; Supplier Part Number 1: PIC24FJ64GA102-I/SS-ND; Supplier 2: Newark; Supplier Part Number 2: 39T6764; Supplier 3: Mouser; Supplier Part Number 3: 579-24FJ64GA102-I/SS; Mounting Technology: Surface Mount; Code_JEDEC: MS-150; ComponentLink1Description: Manufacturer URL; ComponentLink1URL: http://www.microchip.com/; ComponentLink2Description: Datasheet; ComponentLink2URL: http://ww1.microchip.com/downloads/en/DeviceDoc/39951C.pdf; ComponentLink3Description: Package Specification; ComponentLink3URL: http://www.microchip.com/stellent/groups/techpub_sg/documents/packagingspec/en012702.pdf
footprint SSOP-SS28_N (SOP, 28-Leads, Body 10.2x5.2mm, Pitch 0.65mm, IPC Medium Density)
footprint SSOP-SS28_L (SOP, 28-Leads, Body 10.2x5.2mm, Pitch 0.65mm, IPC High Density)
footprint SSOP-SS28_M (SOP, 28-Leads, Body 10.2x5.2mm, Pitch 0.65mm, IPC Low Density)
pins: 1 ~{MCLR} (in), 2 AN0/C3INC/VREF+/CN2/CTED1/RA0 (io), 3 AN1/C3IND/VREF-/CN3/CTED2/RA1 (io), 4 PGED1/AN2/C2INB/RP0/CN4/RB0 (io), 5 PGEC1/AN3/C2INA/RP1/CN5/RB1 (io), 6 AN4/C1INB/RP2/SDA2/CN6/RB2 (io), 7 AN5/C1INA/RP3/SCL2/CN7/RB3 (io), 8 VSS (power), 9 OSCI/CLKI/C1IND/CN30/RA2 (io), 10 OSCO/CLKO/PMA0/CN29/RA3 (io), 11 SOSCI/C2IND/RP4/PMBE/CN1/RB4 (io), 12 SOSCO/SCLKI/T1CK/C2INC/CN0/PMA1/RA4 (io), 13 VDD (power), 14 PGED3/RP5/ASDA1/CN27/PMD7/RB5 (io), 15 PGC3/EMUC3/RP6/ASCL1/CN24/PMD6/RB6 (io), 16 RP7/INT0/CN23/PMD5/RB7 (io), 17 TCK/RP8/SCL1/CN22/PMD4/RB8 (io), 18 TDO/RP9/SDA1/CN21/PMD3/RB9 (io), 19 DISVREG (in), 20 VCAP/VDDCORE (power), 21 PGED2/TDI/RP10/CN16/PMD2/RB10 (io), 22 PGEC2/TMS/RP11/CN15/PMD1/RB11 (io), 23 AN12/RP12/CN14/PMD0/RB12 (io), 24 AN11/C1INC/RP13/CN13/PMRD/REFO/RB13 (io), 25 AN10/C3INB/CVREF/RTCC/RP14/CN12/PMWR/RB14 (io), 26 AN9/C3INA/RP15/CN11/PMCS1/RB15 (io), 27 VSS (power), 28 VDD (power)

## PIC24FJ64GA102T-I/ML
designator U?
General purpose 16-bit Flash Microcontroller with nanoWatt XLP, 64KB Flash, 8KB SRAM, 28-Pin QFN, Industrial Temperature, Tape and Reel; Manufacturer: Microchip; PartNumber: PIC24FJ64GA102T-I/ML; DatasheetVersion: revC, Aug-2010; PackageVersion: revBB, Aug-2009; PackageReference: QFN-ML28; PackageDescription: 28-Lead Plastic Quad Flat, No Lead Package (ML) - 6x6 mm Body [QFN] with 0.55 mm Contact Length; Supplier 1: Digi-Key; Supplier Part Number 1: PIC24FJ64GA102T-I/ML-ND; Supplier 2: Mouser; Supplier Part Number 2: 579-P24FJ64GA102TIML; Mounting Technology: Surface Mount; Code_JEDEC: MO-220; ComponentLink1Description: Manufacturer URL; ComponentLink1URL: http://www.microchip.com/; ComponentLink2Description: Datasheet; ComponentLink2URL: http://ww1.microchip.com/downloads/en/DeviceDoc/39951C.pdf; ComponentLink3Description: Package Specification; ComponentLink3URL: http://www.microchip.com/stellent/groups/techpub_sg/documents/packagingspec/en012702.pdf
footprint QFN-ML28_N (QFN, 28-Leads, Body 6x6mm, Pitch 0.65mm, Thermal Pad 4.2x4.2mm, IPC Medium Density)
footprint QFN-ML28_L (QFN, 28-Leads, Body 6x6mm, Pitch 0.65mm, Thermal Pad 4.2x4.2mm, IPC High Density)
footprint QFN-ML28_M (QFN, 28-Leads, Body 6x6mm, Pitch 0.65mm, Thermal Pad 4.2x4.2mm, IPC Low Density)
pins: 1 PGED1/AN2/C2INB/RP0/CN4/RB0 (io), 2 PGEC1/AN3/C2INA/RP1/CN5/RB1 (io), 3 AN4/C1INB/SDA2/RP2/CN6/RB2 (io), 4 AN5/C1INA/SCL2/RP3/CN7/RB3 (io), 5 VSS (power), 6 OSCI/CLKI/C1IND/CN30/RA2 (io), 7 OSCO/CLKO/CN29/PMA0/RA3 (io), 8 SOSCI/C2IND/RP4/PMBE/CN1/RB4 (io), 9 SOSCO/SCLKI/T1CK/C2INC/CN0/PMA1/RA4 (io), 10 VDD (power), 11 PGED3/RP5/ASDA1/CN27/PMD7/RB5 (io), 12 PGEC3/RP6/ASCL1/CN24/PMD6/RB6 (io), 13 RP7/INT0/CN23/PMD5/RB7 (io), 14 TCK/RP8/SCL1/CN22/PMD4/RB8 (io), 15 TDO/RP9/SDA1/CN21/PMD3/RB9 (io), 16 DISVREG (in), 17 VCAP/VDDCORE (power), 18 PGED2/TDI/RP10/CN16/PMD2/RB10 (io), 19 PGEC2/TMS/RP11/CN15/PMD1/RB11 (io), 20 AN12/RP12/CN14/PMD0/RB12 (io), 21 AN11/C1INC/RP13/CN13/PMRD/REFO/RB13 (io), 22 AN10/C3INB/CVREF/RTCC/RP14/CN12/PMWR/RB14 (io), 23 AN9/C3INA/RP15/CN11/PMCS1/RB15 (io), 24 VSS (power), 25 VDD (power), 26 ~{MCLR} (in), 27 AN0/C3INC/VREF+/CN2/CTED1/RA0 (io), 28 AN1/C3IND/VREF-/CN3/CTED2/RA1 (io), 29 VSS (power)

## PIC24FJ64GA102T-I/SO
designator U?
General purpose 16-bit Flash Microcontroller with nanoWatt XLP, 64KB Flash, 8KB SRAM, 28-Pin SOIC, Industrial Temperature, Tape and Reel; Manufacturer: Microchip; PartNumber: PIC24FJ64GA102T-I/SO; DatasheetVersion: revC, Aug-2010; PackageVersion: revBB, Aug-2009; PackageReference: SOIC-SO28; PackageDescription: 28-Lead Plastic Small Outline (SO) - Wide 7.50mm Body [SOIC]; Supplier 1: Digi-Key; Supplier Part Number 1: PIC24FJ64GA102T-I/SO-ND; Supplier 2: Mouser; Supplier Part Number 2: 579-P24FJ64GA102TISO; Mounting Technology: Surface Mount; Code_JEDEC: MS-013; ComponentLink1Description: Manufacturer URL; ComponentLink1URL: http://www.microchip.com/; ComponentLink2Description: Datasheet; ComponentLink2URL: http://ww1.microchip.com/downloads/en/DeviceDoc/39951C.pdf; ComponentLink3Description: Package Specification; ComponentLink3URL: http://www.microchip.com/stellent/groups/techpub_sg/documents/packagingspec/en012702.pdf
footprint SOIC-SO28_N (SOIC, 28-Leads, Body 17.9x7.5mm, Pitch 1.27mm, IPC Medium Density)
footprint SOIC-SO28_L (SOIC, 28-Leads, Body 17.9x7.5mm, Pitch 1.27mm, IPC High Density)
footprint SOIC-SO28_M (SOIC, 28-Leads, Body 17.9x7.5mm, Pitch 1.27mm, IPC Low Density)
pins: 1 ~{MCLR} (in), 2 AN0/C3INC/VREF+/CN2/CTED1/RA0 (io), 3 AN1/C3IND/VREF-/CN3/CTED2/RA1 (io), 4 PGED1/AN2/C2INB/RP0/CN4/RB0 (io), 5 PGEC1/AN3/C2INA/RP1/CN5/RB1 (io), 6 AN4/C1INB/RP2/SDA2/CN6/RB2 (io), 7 AN5/C1INA/RP3/SCL2/CN7/RB3 (io), 8 VSS (power), 9 OSCI/CLKI/C1IND/CN30/RA2 (io), 10 OSCO/CLKO/PMA0/CN29/RA3 (io), 11 SOSCI/C2IND/RP4/PMBE/CN1/RB4 (io), 12 SOSCO/SCLKI/T1CK/C2INC/CN0/PMA1/RA4 (io), 13 VDD (power), 14 PGED3/RP5/ASDA1/CN27/PMD7/RB5 (io), 15 PGC3/EMUC3/RP6/ASCL1/CN24/PMD6/RB6 (io), 16 RP7/INT0/CN23/PMD5/RB7 (io), 17 TCK/RP8/SCL1/CN22/PMD4/RB8 (io), 18 TDO/RP9/SDA1/CN21/PMD3/RB9 (io), 19 DISVREG (in), 20 VCAP/VDDCORE (power), 21 PGED2/TDI/RP10/CN16/PMD2/RB10 (io), 22 PGEC2/TMS/RP11/CN15/PMD1/RB11 (io), 23 AN12/RP12/CN14/PMD0/RB12 (io), 24 AN11/C1INC/RP13/CN13/PMRD/REFO/RB13 (io), 25 AN10/C3INB/CVREF/RTCC/RP14/CN12/PMWR/RB14 (io), 26 AN9/C3INA/RP15/CN11/PMCS1/RB15 (io), 27 VSS (power), 28 VDD (power)

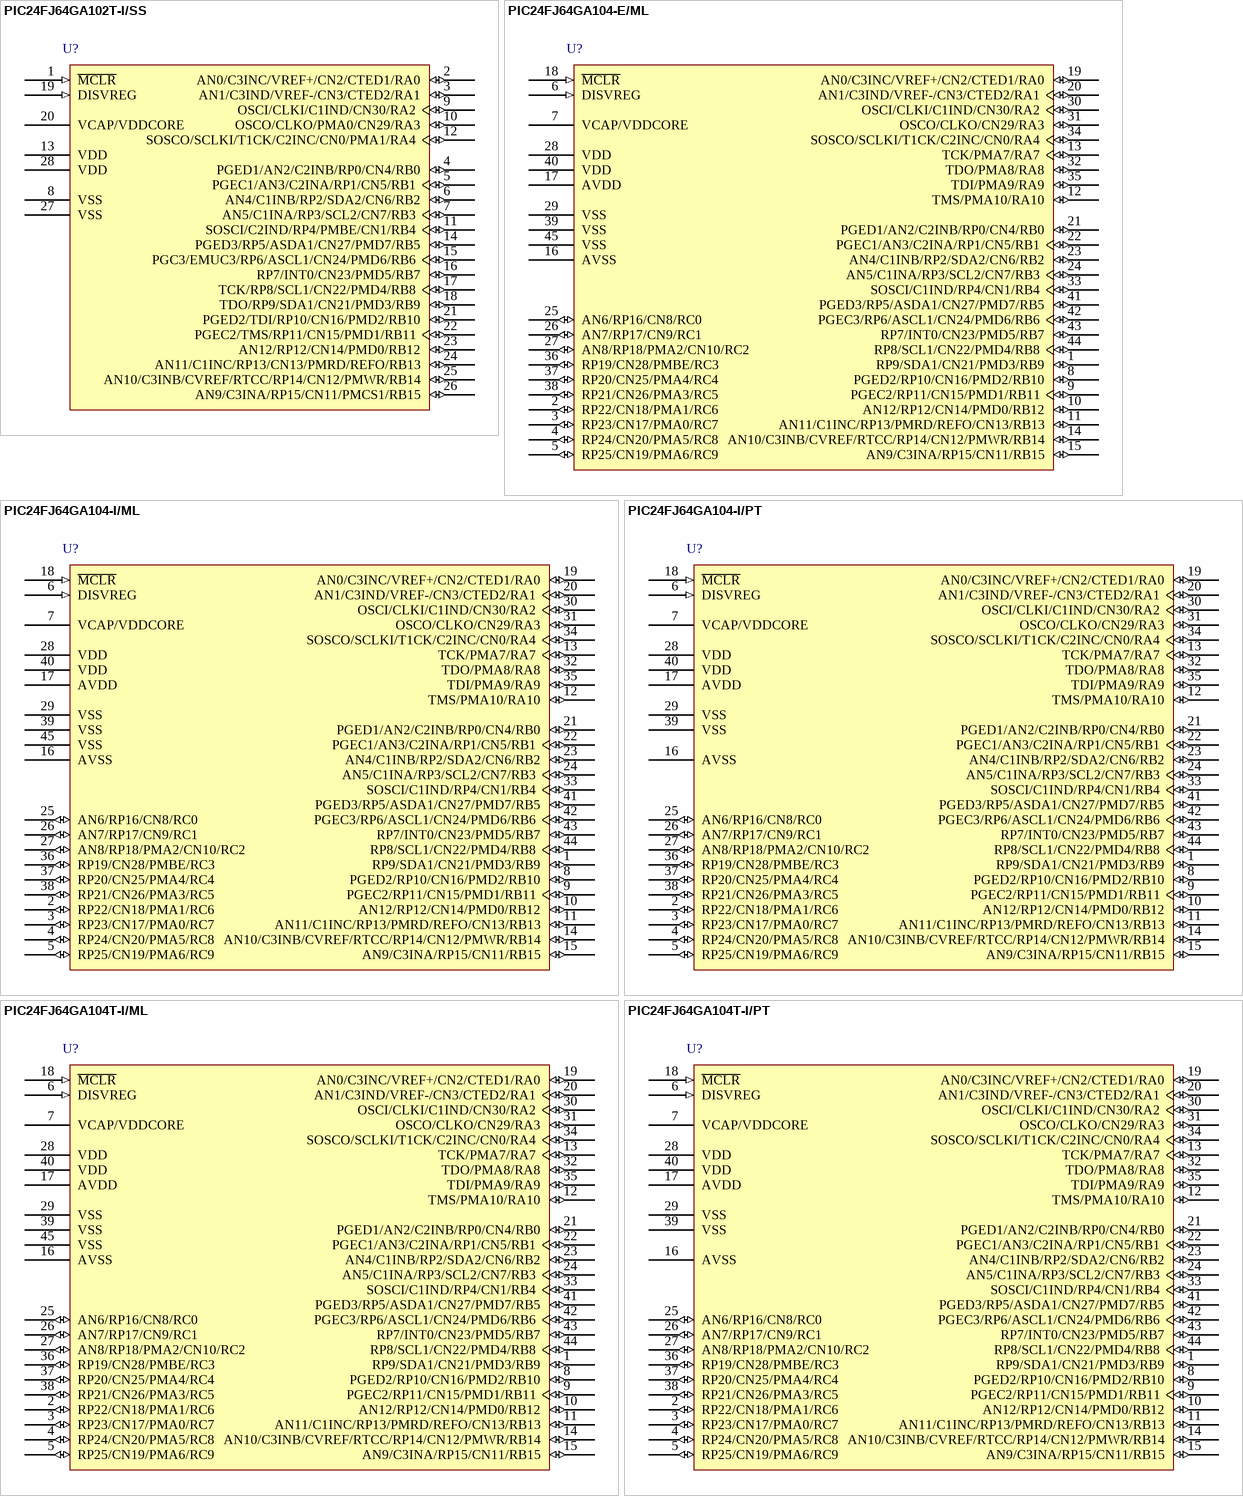
[diagram p45: symbols PIC24FJ64GA102T-I/SS to PIC24FJ64GA104T-I/PT]

## PIC24FJ64GA102T-I/SS
designator U?
General purpose 16-bit Flash Microcontroller with nanoWatt XLP, 64KB Flash, 8KB SRAM, 28-Pin SSOP, Industrial Temperature, Tape and Reel; Manufacturer: Microchip; PartNumber: PIC24FJ64GA102T-I/SS; DatasheetVersion: revC, Aug-2010; PackageVersion: revBB, Aug-2009; PackageReference: SSOP-SS28; PackageDescription: 28-Lead Plastic Shrink Small Outline (SS) - 5.3mm Body [SSOP]; Supplier 1: Digi-Key; Supplier Part Number 1: PIC24FJ64GA102T-I/SS-ND; Supplier 2: Mouser; Supplier Part Number 2: 579-24FJ64GA102TISS; Mounting Technology: Surface Mount; Code_JEDEC: MS-150; ComponentLink1Description: Manufacturer URL; ComponentLink1URL: http://www.microchip.com/; ComponentLink2Description: Datasheet; ComponentLink2URL: http://ww1.microchip.com/downloads/en/DeviceDoc/39951C.pdf; ComponentLink3Description: Package Specification; ComponentLink3URL: http://www.microchip.com/stellent/groups/techpub_sg/documents/packagingspec/en012702.pdf
footprint SSOP-SS28_N (SOP, 28-Leads, Body 10.2x5.2mm, Pitch 0.65mm, IPC Medium Density)
footprint SSOP-SS28_L (SOP, 28-Leads, Body 10.2x5.2mm, Pitch 0.65mm, IPC High Density)
footprint SSOP-SS28_M (SOP, 28-Leads, Body 10.2x5.2mm, Pitch 0.65mm, IPC Low Density)
pins: 1 ~{MCLR} (in), 2 AN0/C3INC/VREF+/CN2/CTED1/RA0 (io), 3 AN1/C3IND/VREF-/CN3/CTED2/RA1 (io), 4 PGED1/AN2/C2INB/RP0/CN4/RB0 (io), 5 PGEC1/AN3/C2INA/RP1/CN5/RB1 (io), 6 AN4/C1INB/RP2/SDA2/CN6/RB2 (io), 7 AN5/C1INA/RP3/SCL2/CN7/RB3 (io), 8 VSS (power), 9 OSCI/CLKI/C1IND/CN30/RA2 (io), 10 OSCO/CLKO/PMA0/CN29/RA3 (io), 11 SOSCI/C2IND/RP4/PMBE/CN1/RB4 (io), 12 SOSCO/SCLKI/T1CK/C2INC/CN0/PMA1/RA4 (io), 13 VDD (power), 14 PGED3/RP5/ASDA1/CN27/PMD7/RB5 (io), 15 PGC3/EMUC3/RP6/ASCL1/CN24/PMD6/RB6 (io), 16 RP7/INT0/CN23/PMD5/RB7 (io), 17 TCK/RP8/SCL1/CN22/PMD4/RB8 (io), 18 TDO/RP9/SDA1/CN21/PMD3/RB9 (io), 19 DISVREG (in), 20 VCAP/VDDCORE (power), 21 PGED2/TDI/RP10/CN16/PMD2/RB10 (io), 22 PGEC2/TMS/RP11/CN15/PMD1/RB11 (io), 23 AN12/RP12/CN14/PMD0/RB12 (io), 24 AN11/C1INC/RP13/CN13/PMRD/REFO/RB13 (io), 25 AN10/C3INB/CVREF/RTCC/RP14/CN12/PMWR/RB14 (io), 26 AN9/C3INA/RP15/CN11/PMCS1/RB15 (io), 27 VSS (power), 28 VDD (power)

## PIC24FJ64GA104-E/ML
designator U?
General purpose 16-bit Flash Microcontroller with nanoWatt XLP, 64KB Flash, 8KB SRAM, 44-Pin QFN, Extended Temperature; Manufacturer: Microchip; PartNumber: PIC24FJ64GA104-E/ML; DatasheetVersion: revC, Aug-2010; PackageVersion: revBB, Aug-2009; PackageReference: QFN-ML44; PackageDescription: 44-Lead Plastic Quad Flat, No Lead Package (ML) - 8x8 mm Body [QFN]; Mounting Technology: Surface Mount; Code_JEDEC: MO-220; Code_IPC: QFN65P800X800-44V2; ComponentLink1Description: Manufacturer URL; ComponentLink1URL: http://www.microchip.com/; ComponentLink2Description: Datasheet; ComponentLink2URL: http://ww1.microchip.com/downloads/en/DeviceDoc/39951C.pdf; ComponentLink3Description: Package Specification; ComponentLink3URL: http://www.microchip.com/stellent/groups/techpub_sg/documents/packagingspec/en012702.pdf
footprint QFN-ML44_N (QFN, 44-Leads, Body 8x8mm, Pitch 0.65mm, Thermal Pad 6.8x6.8mm, IPC Medium Density)
footprint QFN-ML44_L (QFN, 44-Leads, Body 8x8mm, Pitch 0.65mm, Thermal Pad 6.8x6.8mm, IPC High Density)
footprint QFN-ML44_M (QFN, 44-Leads, Body 8x8mm, Pitch 0.65mm, Thermal Pad 6.8x6.8mm, IPC Low Density)
pins: 1 RP9/SDA1/CN21/PMD3/RB9 (io), 2 RP22/CN18/PMA1/RC6 (io), 3 RP23/CN17/PMA0/RC7 (io), 4 RP24/CN20/PMA5/RC8 (io), 5 RP25/CN19/PMA6/RC9 (io), 6 DISVREG (in), 7 VCAP/VDDCORE (power), 8 PGED2/RP10/CN16/PMD2/RB10 (io), 9 PGEC2/RP11/CN15/PMD1/RB11 (io), 10 AN12/RP12/CN14/PMD0/RB12 (io), 11 AN11/C1INC/RP13/PMRD/REFO/CN13/RB13 (io), 12 TMS/PMA10/RA10 (io), 13 TCK/PMA7/RA7 (io), 14 AN10/C3INB/CVREF/RTCC/RP14/CN12/PMWR/RB14 (io), 15 AN9/C3INA/RP15/CN11/RB15 (io), 16 AVSS (power), 17 AVDD (power), 18 ~{MCLR} (in), 19 AN0/C3INC/VREF+/CN2/CTED1/RA0 (io), 20 AN1/C3IND/VREF-/CN3/CTED2/RA1 (io), 21 PGED1/AN2/C2INB/RP0/CN4/RB0 (io), 22 PGEC1/AN3/C2INA/RP1/CN5/RB1 (io), 23 AN4/C1INB/RP2/SDA2/CN6/RB2 (io), 24 AN5/C1INA/RP3/SCL2/CN7/RB3 (io), 25 AN6/RP16/CN8/RC0 (io), 26 AN7/RP17/CN9/RC1 (io), 27 AN8/RP18/PMA2/CN10/RC2 (io), 28 VDD (power), 29 VSS (power), 30 OSCI/CLKI/C1IND/CN30/RA2 (io), 31 OSCO/CLKO/CN29/RA3 (io), 32 TDO/PMA8/RA8 (io), 33 SOSCI/C1IND/RP4/CN1/RB4 (io), 34 SOSCO/SCLKI/T1CK/C2INC/CN0/RA4 (io), 35 TDI/PMA9/RA9 (io), 36 RP19/CN28/PMBE/RC3 (io), 37 RP20/CN25/PMA4/RC4 (io), 38 RP21/CN26/PMA3/RC5 (io), 39 VSS (power), 40 VDD (power), 41 PGED3/RP5/ASDA1/CN27/PMD7/RB5 (io), 42 PGEC3/RP6/ASCL1/CN24/PMD6/RB6 (io), 43 RP7/INT0/CN23/PMD5/RB7 (io), 44 RP8/SCL1/CN22/PMD4/RB8 (io), 45 VSS (power)

## PIC24FJ64GA104-I/ML
designator U?
General purpose 16-bit Flash Microcontroller with nanoWatt XLP, 64KB Flash, 8KB SRAM, 44-Pin QFN, Industrial Temperature; Manufacturer: Microchip; PartNumber: PIC24FJ64GA104-I/ML; DatasheetVersion: revC, Aug-2010; PackageVersion: revBB, Aug-2009; PackageReference: QFN-ML44; PackageDescription: 44-Lead Plastic Quad Flat, No Lead Package (ML) - 8x8 mm Body [QFN]; Supplier 1: Digi-Key; Supplier Part Number 1: PIC24FJ64GA104-I/ML-ND; Supplier 2: Farnell; Supplier Part Number 2: 1778480; Supplier 3: Farnell; Supplier Part Number 3: 1778480MPKG; Supplier 4: Newark; Supplier Part Number 4: 45P4822; Supplier 5: Mouser; Supplier Part Number 5: 579-PIC24FJ64GA-I/ML; Mounting Technology: Surface Mount; Code_JEDEC: MO-220; Code_IPC: QFN65P800X800-44V2; ComponentLink1Description: Manufacturer URL; ComponentLink1URL: http://www.microchip.com/; ComponentLink2Description: Datasheet; ComponentLink2URL: http://ww1.microchip.com/downloads/en/DeviceDoc/39951C.pdf; ComponentLink3Description: Package Specification; ComponentLink3URL: http://www.microchip.com/stellent/groups/techpub_sg/documents/packagingspec/en012702.pdf
footprint QFN-ML44_N (QFN, 44-Leads, Body 8x8mm, Pitch 0.65mm, Thermal Pad 6.8x6.8mm, IPC Medium Density)
footprint QFN-ML44_L (QFN, 44-Leads, Body 8x8mm, Pitch 0.65mm, Thermal Pad 6.8x6.8mm, IPC High Density)
footprint QFN-ML44_M (QFN, 44-Leads, Body 8x8mm, Pitch 0.65mm, Thermal Pad 6.8x6.8mm, IPC Low Density)
pins: 1 RP9/SDA1/CN21/PMD3/RB9 (io), 2 RP22/CN18/PMA1/RC6 (io), 3 RP23/CN17/PMA0/RC7 (io), 4 RP24/CN20/PMA5/RC8 (io), 5 RP25/CN19/PMA6/RC9 (io), 6 DISVREG (in), 7 VCAP/VDDCORE (power), 8 PGED2/RP10/CN16/PMD2/RB10 (io), 9 PGEC2/RP11/CN15/PMD1/RB11 (io), 10 AN12/RP12/CN14/PMD0/RB12 (io), 11 AN11/C1INC/RP13/PMRD/REFO/CN13/RB13 (io), 12 TMS/PMA10/RA10 (io), 13 TCK/PMA7/RA7 (io), 14 AN10/C3INB/CVREF/RTCC/RP14/CN12/PMWR/RB14 (io), 15 AN9/C3INA/RP15/CN11/RB15 (io), 16 AVSS (power), 17 AVDD (power), 18 ~{MCLR} (in), 19 AN0/C3INC/VREF+/CN2/CTED1/RA0 (io), 20 AN1/C3IND/VREF-/CN3/CTED2/RA1 (io), 21 PGED1/AN2/C2INB/RP0/CN4/RB0 (io), 22 PGEC1/AN3/C2INA/RP1/CN5/RB1 (io), 23 AN4/C1INB/RP2/SDA2/CN6/RB2 (io), 24 AN5/C1INA/RP3/SCL2/CN7/RB3 (io), 25 AN6/RP16/CN8/RC0 (io), 26 AN7/RP17/CN9/RC1 (io), 27 AN8/RP18/PMA2/CN10/RC2 (io), 28 VDD (power), 29 VSS (power), 30 OSCI/CLKI/C1IND/CN30/RA2 (io), 31 OSCO/CLKO/CN29/RA3 (io), 32 TDO/PMA8/RA8 (io), 33 SOSCI/C1IND/RP4/CN1/RB4 (io), 34 SOSCO/SCLKI/T1CK/C2INC/CN0/RA4 (io), 35 TDI/PMA9/RA9 (io), 36 RP19/CN28/PMBE/RC3 (io), 37 RP20/CN25/PMA4/RC4 (io), 38 RP21/CN26/PMA3/RC5 (io), 39 VSS (power), 40 VDD (power), 41 PGED3/RP5/ASDA1/CN27/PMD7/RB5 (io), 42 PGEC3/RP6/ASCL1/CN24/PMD6/RB6 (io), 43 RP7/INT0/CN23/PMD5/RB7 (io), 44 RP8/SCL1/CN22/PMD4/RB8 (io), 45 VSS (power)

## PIC24FJ64GA104-I/PT
designator U?
General purpose 16-bit Flash Microcontroller with nanoWatt XLP, 64KB Flash, 8KB SRAM, 44-Pin TQFP, Industrial Temperature; Manufacturer: Microchip; PartNumber: PIC24FJ64GA104-I/PT; DatasheetVersion: revC, Aug-2010; PackageVersion: revBB, Aug-2009; PackageReference: TQFP-PT44; PackageDescription: 44-Lead Plastic Thin Quad Flatpack (PT) - 10x10x1mm Body, 2.00mm [TQFP]; Supplier 1: Digi-Key; Supplier Part Number 1: PIC24FJ64GA104-I/PT-ND; Supplier 2: Farnell; Supplier Part Number 2: 1778482; Supplier 3: Farnell; Supplier Part Number 3: 1778482MPKG; Supplier 4: Newark; Supplier Part Number 4: 45P4823; Supplier 5: Mouser; Supplier Part Number 5: 579-FJ64GA104-I/PT; Mounting Technology: Surface Mount; Code_JEDEC: MS-026; ComponentLink1Description: Manufacturer URL; ComponentLink1URL: http://www.microchip.com/; ComponentLink2Description: Datasheet; ComponentLink2URL: http://ww1.microchip.com/downloads/en/DeviceDoc/39951C.pdf; ComponentLink3Description: Package Specification; ComponentLink3URL: http://www.microchip.com/stellent/groups/techpub_sg/documents/packagingspec/en012702.pdf
footprint TQFP-PT44_N (Thin QFP, 44-Leads, Body 10x10mm, Pitch 0.8mm, IPC Medium Density)
footprint TQFP-PT44_L (Thin QFP, 44-Leads, Body 10x10mm, Pitch 0.8mm, IPC High Density)
footprint TQFP-PT44_M (Thin QFP, 44-Leads, Body 10x10mm, Pitch 0.8mm, IPC Low Density)
pins: 1 RP9/SDA1/CN21/PMD3/RB9 (io), 2 RP22/CN18/PMA1/RC6 (io), 3 RP23/CN17/PMA0/RC7 (io), 4 RP24/CN20/PMA5/RC8 (io), 5 RP25/CN19/PMA6/RC9 (io), 6 DISVREG (in), 7 VCAP/VDDCORE (power), 8 PGED2/RP10/CN16/PMD2/RB10 (io), 9 PGEC2/RP11/CN15/PMD1/RB11 (io), 10 AN12/RP12/CN14/PMD0/RB12 (io), 11 AN11/C1INC/RP13/PMRD/REFO/CN13/RB13 (io), 12 TMS/PMA10/RA10 (io), 13 TCK/PMA7/RA7 (io), 14 AN10/C3INB/CVREF/RTCC/RP14/CN12/PMWR/RB14 (io), 15 AN9/C3INA/RP15/CN11/RB15 (io), 16 AVSS (power), 17 AVDD (power), 18 ~{MCLR} (in), 19 AN0/C3INC/VREF+/CN2/CTED1/RA0 (io), 20 AN1/C3IND/VREF-/CN3/CTED2/RA1 (io), 21 PGED1/AN2/C2INB/RP0/CN4/RB0 (io), 22 PGEC1/AN3/C2INA/RP1/CN5/RB1 (io), 23 AN4/C1INB/RP2/SDA2/CN6/RB2 (io), 24 AN5/C1INA/RP3/SCL2/CN7/RB3 (io), 25 AN6/RP16/CN8/RC0 (io), 26 AN7/RP17/CN9/RC1 (io), 27 AN8/RP18/PMA2/CN10/RC2 (io), 28 VDD (power), 29 VSS (power), 30 OSCI/CLKI/C1IND/CN30/RA2 (io), 31 OSCO/CLKO/CN29/RA3 (io), 32 TDO/PMA8/RA8 (io), 33 SOSCI/C1IND/RP4/CN1/RB4 (io), 34 SOSCO/SCLKI/T1CK/C2INC/CN0/RA4 (io), 35 TDI/PMA9/RA9 (io), 36 RP19/CN28/PMBE/RC3 (io), 37 RP20/CN25/PMA4/RC4 (io), 38 RP21/CN26/PMA3/RC5 (io), 39 VSS (power), 40 VDD (power), 41 PGED3/RP5/ASDA1/CN27/PMD7/RB5 (io), 42 PGEC3/RP6/ASCL1/CN24/PMD6/RB6 (io), 43 RP7/INT0/CN23/PMD5/RB7 (io), 44 RP8/SCL1/CN22/PMD4/RB8 (io)

## PIC24FJ64GA104T-I/ML
designator U?
General purpose 16-bit Flash Microcontroller with nanoWatt XLP, 64KB Flash, 8KB SRAM, 44-Pin QFN, Industrial Temperature, Tape and Reel; Manufacturer: Microchip; PartNumber: PIC24FJ64GA104T-I/ML; DatasheetVersion: revC, Aug-2010; PackageVersion: revBB, Aug-2009; PackageReference: QFN-ML44; PackageDescription: 44-Lead Plastic Quad Flat, No Lead Package (ML) - 8x8 mm Body [QFN]; Supplier 1: Digi-Key; Supplier Part Number 1: PIC24FJ64GA104T-I/ML-ND; Supplier 2: Mouser; Supplier Part Number 2: 579-FJ64GA104T-I/ML; Mounting Technology: Surface Mount; Code_JEDEC: MO-220; Code_IPC: QFN65P800X800-44V2; ComponentLink1Description: Manufacturer URL; ComponentLink1URL: http://www.microchip.com/; ComponentLink2Description: Datasheet; ComponentLink2URL: http://ww1.microchip.com/downloads/en/DeviceDoc/39951C.pdf; ComponentLink3Description: Package Specification; ComponentLink3URL: http://www.microchip.com/stellent/groups/techpub_sg/documents/packagingspec/en012702.pdf
footprint QFN-ML44_N (QFN, 44-Leads, Body 8x8mm, Pitch 0.65mm, Thermal Pad 6.8x6.8mm, IPC Medium Density)
footprint QFN-ML44_L (QFN, 44-Leads, Body 8x8mm, Pitch 0.65mm, Thermal Pad 6.8x6.8mm, IPC High Density)
footprint QFN-ML44_M (QFN, 44-Leads, Body 8x8mm, Pitch 0.65mm, Thermal Pad 6.8x6.8mm, IPC Low Density)
pins: 1 RP9/SDA1/CN21/PMD3/RB9 (io), 2 RP22/CN18/PMA1/RC6 (io), 3 RP23/CN17/PMA0/RC7 (io), 4 RP24/CN20/PMA5/RC8 (io), 5 RP25/CN19/PMA6/RC9 (io), 6 DISVREG (in), 7 VCAP/VDDCORE (power), 8 PGED2/RP10/CN16/PMD2/RB10 (io), 9 PGEC2/RP11/CN15/PMD1/RB11 (io), 10 AN12/RP12/CN14/PMD0/RB12 (io), 11 AN11/C1INC/RP13/PMRD/REFO/CN13/RB13 (io), 12 TMS/PMA10/RA10 (io), 13 TCK/PMA7/RA7 (io), 14 AN10/C3INB/CVREF/RTCC/RP14/CN12/PMWR/RB14 (io), 15 AN9/C3INA/RP15/CN11/RB15 (io), 16 AVSS (power), 17 AVDD (power), 18 ~{MCLR} (in), 19 AN0/C3INC/VREF+/CN2/CTED1/RA0 (io), 20 AN1/C3IND/VREF-/CN3/CTED2/RA1 (io), 21 PGED1/AN2/C2INB/RP0/CN4/RB0 (io), 22 PGEC1/AN3/C2INA/RP1/CN5/RB1 (io), 23 AN4/C1INB/RP2/SDA2/CN6/RB2 (io), 24 AN5/C1INA/RP3/SCL2/CN7/RB3 (io), 25 AN6/RP16/CN8/RC0 (io), 26 AN7/RP17/CN9/RC1 (io), 27 AN8/RP18/PMA2/CN10/RC2 (io), 28 VDD (power), 29 VSS (power), 30 OSCI/CLKI/C1IND/CN30/RA2 (io), 31 OSCO/CLKO/CN29/RA3 (io), 32 TDO/PMA8/RA8 (io), 33 SOSCI/C1IND/RP4/CN1/RB4 (io), 34 SOSCO/SCLKI/T1CK/C2INC/CN0/RA4 (io), 35 TDI/PMA9/RA9 (io), 36 RP19/CN28/PMBE/RC3 (io), 37 RP20/CN25/PMA4/RC4 (io), 38 RP21/CN26/PMA3/RC5 (io), 39 VSS (power), 40 VDD (power), 41 PGED3/RP5/ASDA1/CN27/PMD7/RB5 (io), 42 PGEC3/RP6/ASCL1/CN24/PMD6/RB6 (io), 43 RP7/INT0/CN23/PMD5/RB7 (io), 44 RP8/SCL1/CN22/PMD4/RB8 (io), 45 VSS (power)